# Altium schematic symbol library IC.SchLib: 291 symbols (part 2 of 3)
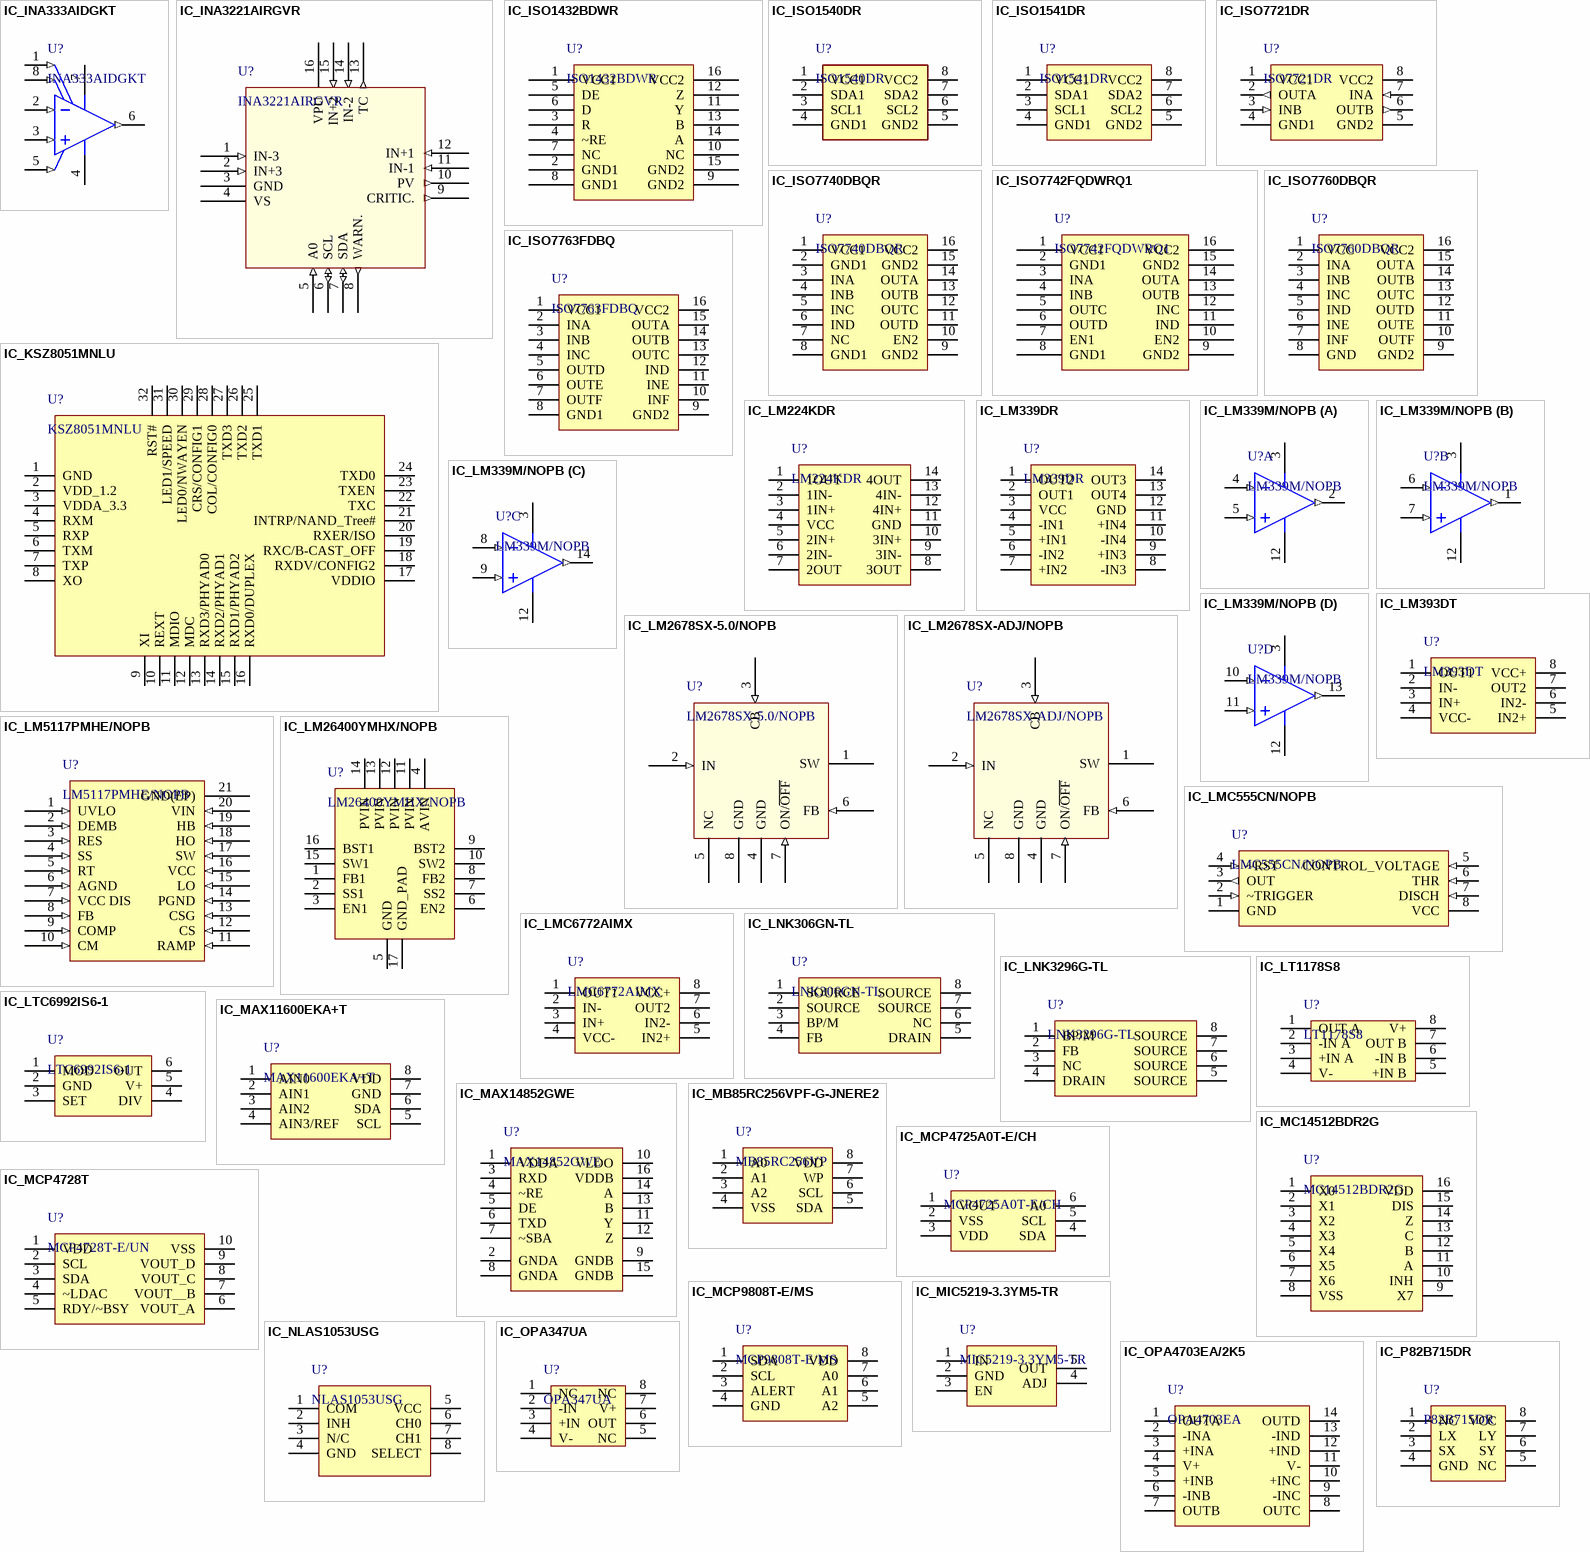
[diagram p13: symbols IC_INA333AIDGKT to IC_P82B715DR]

## IC_MC14512BDR2G
designator U?, comment MC14512BDR2G
Data Selector/Multiplexer 1 x 8:1 16-SOIC; Manufacturer: ON Semiconductor; Alternate Part Number-1: NA; Manufacturer Part Number: MC14512BDR2G; Case/Package: SOIC16; Supplier-1: ARROW; Supplier Part Number-1: MC14512BDR2G
footprint SOIC16_50_284_25X90_SMT
pins: 1 X0, 2 X1, 3 X2, 4 X3, 5 X4, 6 X5, 7 X6, 8 VSS, 9 X7, 10 INH, 11 A, 12 B, 13 C, 14 Z, 15 DIS, 16 VDD

## IC_MCP4725A0T-E/CH
designator U?, comment MCP4725A0T-E/CH
12 Bit Digital to Analog Converter 1 SOT-23-6; Manufacturer: Microchip Technology; Alternate Part Number-1: NA; Manufacturer Part Number: MCP4725A0T-E/CH; Case/Package: SOT-23-6; Supplier-1: Digikey; Supplier Part Number-1: MCP4725A0T-E/CHCT-ND
footprint SOT23-6 (CASE: SOT)
pins: 1 VOUT, 2 VSS, 3 VDD, 4 SDA, 5 SCL, 6 A0

## IC_MCP4728T
designator U?, comment MCP4728T-E/UN
12 Bit Digital to Analog Converter 4 10-MSOP; Manufacturer: Microchip Technology; Alternate Part Number-1: NA; Manufacturer Part Number: MCP4728T-E/UN; Case/Package: 10-MSOP; Supplier-1: Arrow; Supplier Part Number-1: MCP4728T-E/UN
footprint MSOP-10_19.6_235_11.8X55X_SMD (IC)
pins: 1 VDD, 2 SCL, 3 SDA, 4 ~LDAC, 5 RDY/~BSY, 6 VOUT_A, 7 VOUT__B, 8 VOUT_C, 9 VOUT_D, 10 VSS

## IC_MCP9808T-E/MS
designator U?, comment MCP9808T-E/MS
Temperature Sensor Digital, Local -40°C ~ 125°C 10 b 8-MSOP; Manufacturer: Microchip; Alternate Part Number-1: NA; Manufacturer Part Number: MCP9808T-E/MS; Case/Package: MSOP8; Supplier-1: ARROW; Supplier Part Number-1: MCP9808T-E/MS
footprint MSOP-8_25.5_230_17.7X55_SMD (CASE:MSOP)
pins: 1 SDA, 2 SCL, 3 ALERT, 4 GND, 5 A2, 6 A1, 7 A0, 8 VDD

## IC_MIC5219-3.3YM5-TR
designator U?, comment MIC5219-3.3YM5-TR
Linear Voltage Regulator IC 1 Output 500mA SOT-23-5; Manufacturer: Microchip Micrel; Alternate Part Number-1: NA; Manufacturer Part Number: MIC5219-3.3YM5-TR; Case/Package: SOT-23-5; Supplier-1: ARROW; Supplier Part Number-1: MIC5219-3.3YM5-TR
footprint SOT23-5
pins: 1 IN, 2 GND, 3 EN, 4 ADJ, 5 OUT

## IC_NLAS1053USG
designator U?, comment NLAS1053USG
1 Circuit IC Switch 2:1 16Ohm US8; Manufacturer: ON Semiconductor; Alternate Part Number-1: NA; Manufacturer Part Number: NLAS1053USG; Case/Package: 8-VFSOP; Supplier-1: Arrow; Supplier Part Number-1: NLAS1053USG
footprint VSSOP-8_19.6_157_33X11_SMD (VSSOP)
pins: 1 COM, 2 INH, 3 N/C, 4 GND, 5 VCC, 6 CH0, 7 CH1, 8 SELECT

## IC_OPA347UA
designator U?, comment OPA347UA
General Purpose Amplifier 1 Circuit Rail-to-Rail 8-SOIC; Manufacturer: Texas Instruments; Alternate Part Number-1: NA; Manufacturer Part Number: OPA347UA; Case/Package: SOIC8; Supplier-1: MOUSER; Supplier Part Number-1: OPA347UA
footprint SOIC8_50_328_25X90_SMT (SOIC)
pins: 1 NC, 2 -IN, 3 +IN, 4 V-, 5 NC, 6 OUT, 7 V+, 8 NC

## IC_OPA4703EA/2K5
designator U?, comment OPA4703EA
General Purpose Amplifier 4 Circuit Rail-to-Rail 14-TSSOP; Manufacturer: Texas Instruments; Manufacturer Part Number: OPA4703EA/2K5; Alternate Part Number-1: NA; Case/Package: TSSOP14; Supplier-1: MOUSER; Supplier Part Number-1: OPA4703EA/2K5
footprint TSSOP14_25.6_296_15X55_SMD (CASE: TSSOP)
pins: 1 OUTA, 2 -INA, 3 +INA, 4 V+, 5 +INB, 6 -INB, 7 OUTB, 8 OUTC, 9 -INC, 10 +INC, 11 V-, 12 +IND, 13 -IND, 14 OUTD

## IC_P82B715DR
designator U?, comment P82B715DR
Buffer, ReDriver 1 Channel 8-SOIC; Manufacturer: Texas Instruments; Alternate Part Number-1: NA; Manufacturer Part Number: P82B715DR; Case/Package: SOIC8; Supplier-1: ARROW; Supplier Part Number-1: P82B715DR
footprint SOIC8_50_328_25X90_SMT (SOIC)
pins: 1 NC, 2 LX, 3 SX, 4 GND, 5 NC, 6 SY, 7 LY, 8 VCC

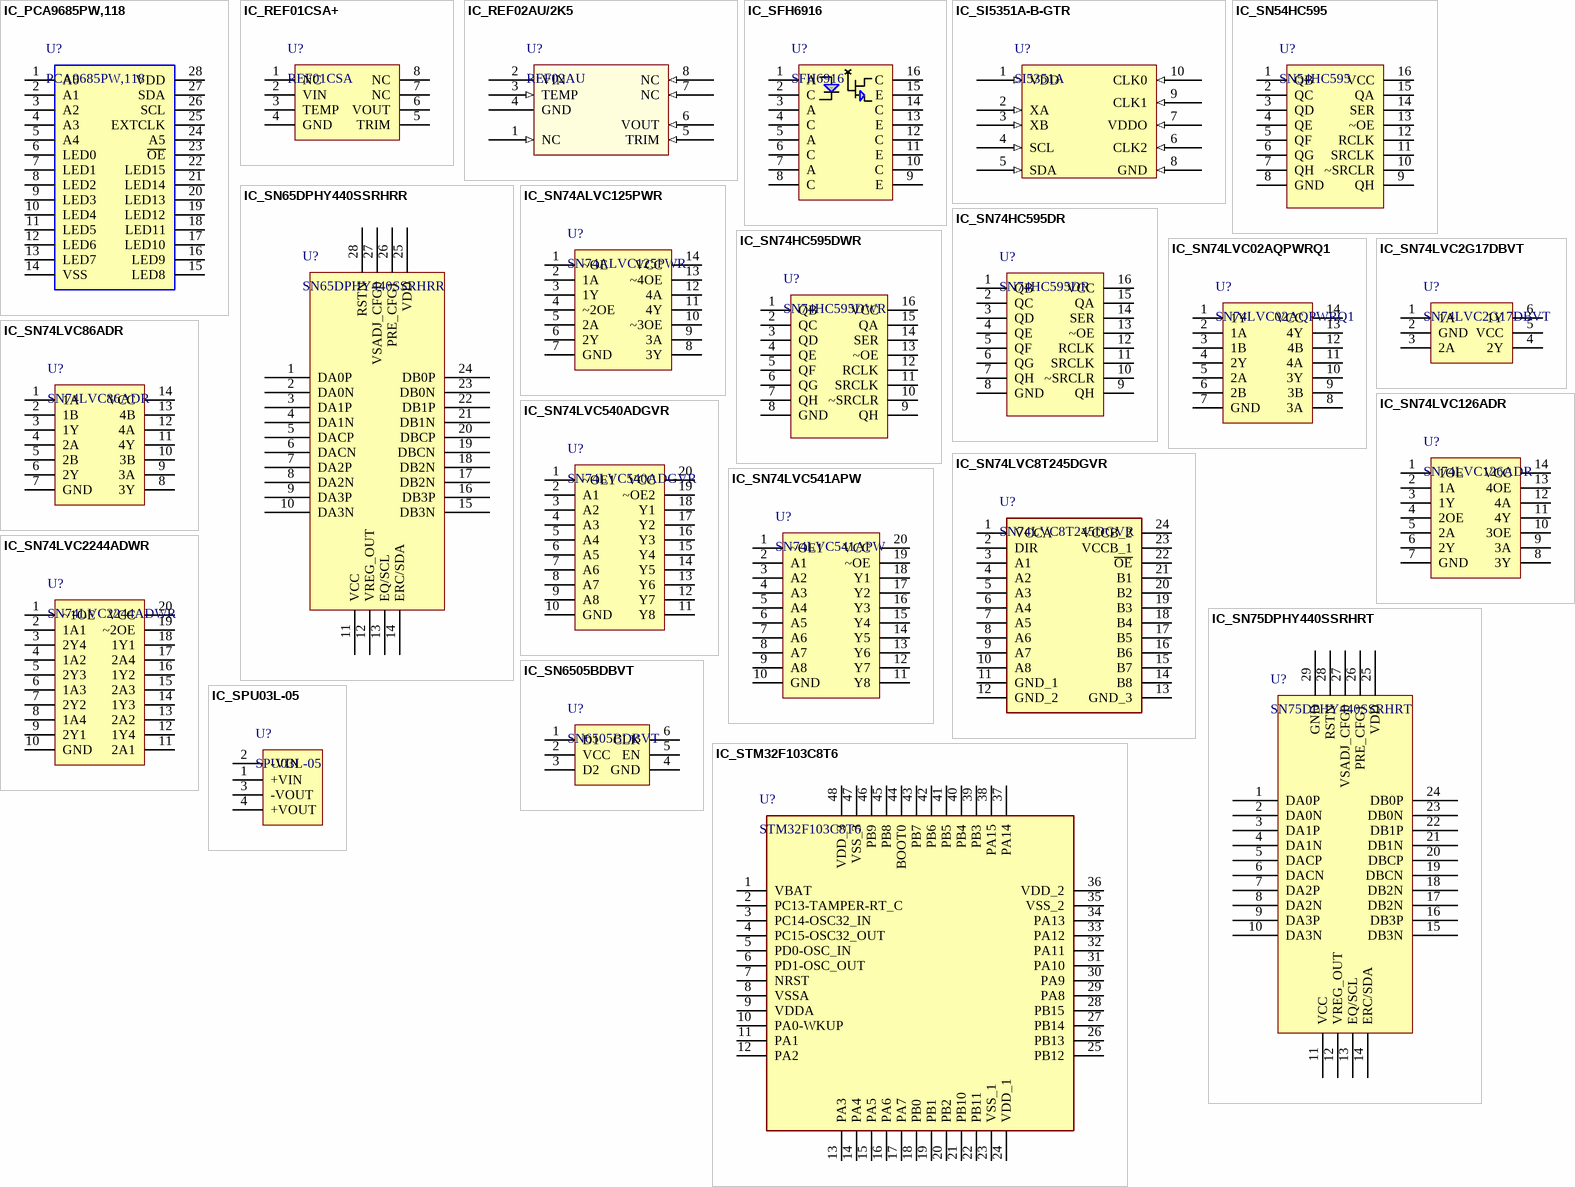
[diagram p4: symbols IC_PCA9685PW,118 to IC_STM32F103C8T6]

## IC_PCA9685PW,118
designator U?, comment PCA9685PW,118
LED Driver IC 16 Output Linear PWM Dimming 25mA 28-TSSOP; Manufacturer: NXP Semiconductors; Alternate Part Number-1: NA; Manufacturer Part Number: PCA9685PW,118; Case/Package: TSSOP28; Supplier-1: ARROW; Supplier Part Number-1: PCA9685PW,118
footprint TSSOP28_25.5_295_15X58_SMD (CASE: TSSOP)
pins: 1 A0, 2 A1, 3 A2, 4 A3, 5 A4, 6 LED0, 7 LED1, 8 LED2, 9 LED3, 10 LED4, 11 LED5, 12 LED6, 13 LED7, 14 VSS, 15 LED8, 16 LED9, 17 LED10, 18 LED11, 19 LED12, 20 LED13, 21 LED14, 22 LED15, 23 ~{OE}, 24 A5, 25 EXTCLK, 26 SCL, 27 SDA, 28 VDD

## IC_REF01CSA+
designator U?, comment REF01CSA
Series Voltage Reference IC ±1% 8-SOIC; Manufacturer: Maxim; Manufacturer Part Number: REF01CSA+; Alternate Part Number-1: NA; Case/Package: SOIC8; Supplier-1: RS COMP; Supplier Part Number-1: REF01CSA+
footprint SOIC8_50_328_25X90_SMT (SOIC)
pins: 1 NC, 2 VIN, 3 TEMP, 4 GND, 5 TRIM, 6 VOUT, 7 NC, 8 NC

## IC_REF02AU/2K5
designator U?, comment REF02AU
Series Voltage Reference IC ±0.3% 8-SOIC; Manufacturer: Texas Instruments; Manufacturer Part Number: REF02AU/2K5; Alternate Part Number-1: NA; Case/Package: SOIC8; Supplier-1: ARROW; Supplier Part Number-1: REF02AU/2K5
footprint SOIC8_50_328_25X90_SMT (SOIC)
pins: 1 NC (in), 2 VIN (power), 3 TEMP (in), 4 GND (power), 5 TRIM (in), 6 VOUT (in), 7 NC (in), 8 NC (in)

## IC_SFH6916
designator U?, comment SFH6916
Optoisolator Transistor Output 3750Vrms 4 Channel 16-SOP; Manufacturer: Vishay Semiconductors; Alternate Part Number-1: NA; Manufacturer Part Number: SFH6916; Case/Package: SOIC16; Supplier-1: ARROW; Supplier Part Number-1: SFH6916
footprint SOIC16_50_284_25X90_SMT
pins: 1 A, 2 C, 3 A, 4 C, 5 A, 6 C, 7 A, 8 C, 9 E, 10 C, 11 E, 12 C, 13 E, 14 C, 15 E, 16 C

## IC_SI5351A-B-GTR
designator U?, comment SI5351A
Clock Generators & Support Products I2C Prog, Any Frequency, Any Output, Xtal Ref, 3-Output LVCMOS Clock Gen; Manufacturer: Silicon Labs; Manufacturer Part Number: SI5351A-B-GTR; Alternate Part Number-1: NA; Case/Package: SSOP10; Supplier-1: ARROW; Supplier Part Number-1: SI5351A-B-GTR
footprint SSOP10_19_236_55X11_SMD
pins: 1 VDD (in), 2 XA (in), 3 XB (in), 4 SCL (in), 5 SDA (in), 6 CLK2 (in), 7 VDDO (in), 8 GND (in), 9 CLK1 (in), 10 CLK0 (in)

## IC_SN54HC595
designator U?, comment SN54HC595
Parallel-out shift register IC_SN54HC595 The SNx4HC595 devices contain an 8-bit, serial-in, / 1• 8-Bit Serial-In; Manufacturer: Texas Instruments; Alternate Part Number-1: NA; Manufacturer Part Number: SN54HC595; Case/Package: TSSOP16; Supplier-1: ARROW; Supplier Part Number-1: SN54HC595
footprint TSSOP16_25-59_294_54X14_SMT (TSOP, 16-Leads, Body 5.00x4.40mm, Pitch 0.65mm)
pins: 1 QB, 2 QC, 3 QD, 4 QE, 5 QF, 6 QG, 7 QH, 8 GND, 9 QH, 10 ~SRCLR, 11 SRCLK, 12 RCLK, 13 ~OE, 14 SER, 15 QA, 16 VCC

## IC_SN65DPHY440SSRHRR
designator U?, comment SN65DPHY440SSRHRR
Video IC 28-WQFN (5.5x3.5) Package; Manufacturer: Texas Instruments; Alternate Part Number-1: NA; Manufacturer Part Number: SN65DPHY440SSRHRR; Case/Package: 28-WQFN; Supplier-1: Digikey; Supplier Part Number-1: 296-44524-1-ND
footprint WQFN-28_19.7_186_33.8X10_SMD (WQFN Package)
pins: 1 DA0P, 2 DA0N, 3 DA1P, 4 DA1N, 5 DACP, 6 DACN, 7 DA2P, 8 DA2N, 9 DA3P, 10 DA3N, 11 VCC, 12 VREG_OUT, 13 EQ/SCL, 14 ERC/SDA, 15 DB3N, 16 DB3P, 17 DB2N, 18 DB2N, 19 DBCN, 20 DBCP, 21 DB1N, 22 DB1P, 23 DB0N, 24 DB0P, 25 VDD, 26 PRE_CFG1, 27 VSADJ_CFG0, 28 RSTN

## IC_SN74ALVC125PWR
designator U?, comment SN74ALVC125PWR
Buffer, Non-Inverting 4 Element 1 Bit per Element 3-State Output 14-TSSOP; Manufacturer: Texas Instruments; Alternate Part Number-1: NA; Manufacturer Part Number: SN74ALVC125PWR; Case/Package: TSSOP14; Supplier-1: ARROW; Supplier Part Number-1: SN74ALVC125PWR
footprint TSSOP14_25.6_296_15X55_SMD (CASE: TSSOP)
pins: 1 ~OE, 2 1A, 3 1Y, 4 ~2OE, 5 2A, 6 2Y, 7 GND, 8 3Y, 9 3A, 10 ~3OE, 11 4Y, 12 4A, 13 ~4OE, 14 VCC

## IC_SN74HC595DR
designator U?, comment SN74HC595DR
Shift Shift Register 1 Element 8 Bit 16-SOIC; Manufacturer: TI; Alternate Part Number-1: NA; Manufacturer Part Number: SN74HC595DR; Case/Package: 16-SOIC; Supplier-1: Digikey; Supplier Part Number-1: 296-14857-1-ND
footprint SOIC16_50_284_25X90_SMT
pins: 1 QB, 2 QC, 3 QD, 4 QE, 5 QF, 6 QG, 7 QH, 8 GND, 9 QH, 10 ~SRCLR, 11 SRCLK, 12 RCLK, 13 ~OE, 14 SER, 15 QA, 16 VCC

## IC_SN74HC595DWR
designator U?, comment SN74HC595DWR
Shift Shift Register 1 Element 8 Bit 16-SOIC; Manufacturer: Texas Instruments; Alternate Part Number-1: NA; Manufacturer Part Number: SN74HC595DWR; Case/Package: SOICW-16; Supplier-1: ARROW; Supplier Part Number-1: SN74HC595DWR
footprint SOICW16_50_440_25X76_SMT (SOICW)
pins: 1 QB, 2 QC, 3 QD, 4 QE, 5 QF, 6 QG, 7 QH, 8 GND, 9 QH, 10 ~SRCLR, 11 SRCLK, 12 RCLK, 13 ~OE, 14 SER, 15 QA, 16 VCC

## IC_SN74LVC02AQPWRQ1
designator U?, comment SN74LVC02AQPWRQ1
NOR Gate IC 4 Channel 14-TSSOP; Manufacturer: Texas Instruments; Alternate Part Number-1: NA; Manufacturer Part Number: SN74LVC02AQPWRQ1; Case/Package: TSSOP-14; Supplier-1: Arrow; Supplier Part Number-1: SN74LVC02AQPWRQ1
footprint TSSOP14_25.6_296_15X55_SMD (CASE: TSSOP)
pins: 1 1Y, 2 1A, 3 1B, 4 2Y, 5 2A, 6 2B, 7 GND, 8 3A, 9 3B, 10 3Y, 11 4A, 12 4B, 13 4Y, 14 VCC

## IC_SN74LVC2G17DBVT
designator U?, comment SN74LVC2G17DBVT
Buffer, Non-Inverting 2 Element 1 Bit per Element Push-Pull Output SOT-23-6; Manufacturer: Texas Instruments; Alternate Part Number-1: NA; Manufacturer Part Number: SN74LVC2G17DBVT; Case/Package: SOT23-6; Supplier-1: ARROW; Supplier Part Number-1: SN74LVC2G17DBVT
footprint SOT23-6
pins: 1 1A, 2 GND, 3 2A, 4 2Y, 5 VCC, 6 1Y

## IC_SN74LVC8T245DGVR
designator U?, comment SN74LVC8T245DGVR
Voltage Level Translator Bidirectional 1 Circuit 8 Channel 24-TVSOP; Manufacturer: Texas Instruments; Alternate Part Number-1: NA; Manufacturer Part Number: SN74LVC8T245DGVR; Case/Package: 24TVSOP; Supplier-1: ARROW; Supplier Part Number-1: SN74LVC8T245DGVR
footprint TVSOP-24_15.7_290_58x7.7_smd (IC TRNSLTR BIDIRECTIONAL 24TVSOP)
pins: 1 VCCA, 2 DIR, 3 A1, 4 A2, 5 A3, 6 A4, 7 A5, 8 A6, 9 A7, 10 A8, 11 GND_1, 12 GND_2, 13 GND_3, 14 B8, 15 B7, 16 B6, 17 B5, 18 B4, 19 B3, 20 B2, 21 B1, 22 ~{OE}, 23 VCCB_1, 24 VCCB_2

## IC_SN74LVC86ADR
designator U?, comment SN74LVC86ADR
XOR (Exclusive OR) IC 4 Channel 14-SOIC; Manufacturer: Texas Instruments; Alternate Part Number-1: NA; Manufacturer Part Number: SN74LVC86ADR; Case/Package: 14-SOIC; Supplier-1: Arrow; Supplier Part Number-1: SN74LVC86ADR
footprint SOIC14_50_285_80X25_SMT (SOIC, 14-Leads, Body 8.56x3.90mm, Pitch 1.27mm, IPC Medium Density)
pins: 1 1A, 2 1B, 3 1Y, 4 2A, 5 2B, 6 2Y, 7 GND, 8 3Y, 9 3A, 10 3B, 11 4Y, 12 4A, 13 4B, 14 VCC

## IC_SN74LVC126ADR
designator U?, comment SN74LVC126ADR
Buffer, Non-Inverting 4 Element 1 Bit per Element 3-State Output 14-SOIC; Manufacturer: Texas Instruments; Alternate Part Number-1: NA; Manufacturer Part Number: SN74LVC126ADR; Case/Package: SOIC-14; Supplier-1: Arrow; Supplier Part Number-1: SN74LVC126ADR
footprint SOIC14_50_285_80X25_SMT (SOIC, 14-Leads, Body 8.56x3.90mm, Pitch 1.27mm, IPC Medium Density)
pins: 1 1OE, 2 1A, 3 1Y, 4 2OE, 5 2A, 6 2Y, 7 GND, 8 3Y, 9 3A, 10 3OE, 11 4Y, 12 4A, 13 4OE, 14 VCC

## IC_SN74LVC540ADGVR
designator U?, comment SN74LVC540ADGVR
Buffer, Inverting 1 Element 8 Bit per Element 3-State Output 20-TVSOP; Manufacturer: Texas Instruments; Alternate Part Number-1: NA; Manufacturer Part Number: SN74LVC540ADGVR; Case/Package: TVSOP-20; Supplier-1: Arrow; Supplier Part Number-1: SN74LVC540ADGVR
footprint TVSOP20_15.74_303_9x82.6_SMD (TVSOP Package)
pins: 1 ~OE1, 2 A1, 3 A2, 4 A3, 5 A4, 6 A5, 7 A6, 8 A7, 9 A8, 10 GND, 11 Y8, 12 Y7, 13 Y6, 14 Y5, 15 Y4, 16 Y3, 17 Y2, 18 Y1, 19 ~OE2, 20 VCC

## IC_SN74LVC541APW
designator U?, comment SN74LVC541APW
Buffer/Line Driver 8-CH Non-Inverting 3-ST CMOS 20-Pin TSSOP Tube; Manufacturer: Texas Instruments; Alternate Part Number-1: NA; Manufacturer Part Number: SN74LVC541APW; Case/Package: TSSOP-20; Supplier-1: Arrow; Supplier Part Number-1: SN74LVC541APW
footprint TSSOP20_25-59_292_12X65_SMT
pins: 1 ~OE1, 2 A1, 3 A2, 4 A3, 5 A4, 6 A5, 7 A6, 8 A7, 9 A8, 10 GND, 11 Y8, 12 Y7, 13 Y6, 14 Y5, 15 Y4, 16 Y3, 17 Y2, 18 Y1, 19 ~OE, 20 VCC

## IC_SN74LVC2244ADWR
designator U?, comment SN74LVC2244ADWR
Buffer, Non-Inverting 2 Element 4 Bit per Element 3-State Output 20-SOIC; Manufacturer: Texas Instruments; Alternate Part Number-1: NA; Manufacturer Part Number: SN74LVC2244ADWR; Case/Package: SOIC-20; Supplier-1: Digikey; Supplier Part Number-1: 296-8490-1-ND
footprint SOIC20_50_284_25X90_SMT
pins: 1 ~1OE, 2 1A1, 3 2Y4, 4 1A2, 5 2Y3, 6 1A3, 7 2Y2, 8 1A4, 9 2Y1, 10 GND, 11 2A1, 12 1Y4, 13 2A2, 14 1Y3, 15 2A3, 16 1Y2, 17 2A4, 18 1Y1, 19 ~2OE, 20 VCC

## IC_SN75DPHY440SSRHRT
designator U?, comment SN75DPHY440SSRHRT
Video IC 28-WQFN (5.5x3.5) Package; Manufacturer: Texas Instruments; Alternate Part Number-1: NA; Manufacturer Part Number: SN75DPHY440SSRHRT; Case/Package: 28-WQFN; Supplier-1: Digikey; Supplier Part Number-1: 296-44524-1-ND
footprint WQFN-28_19.7_186_33.8X10_SMD (WQFN Package)
pins: 1 DA0P, 2 DA0N, 3 DA1P, 4 DA1N, 5 DACP, 6 DACN, 7 DA2P, 8 DA2N, 9 DA3P, 10 DA3N, 11 VCC, 12 VREG_OUT, 13 EQ/SCL, 14 ERC/SDA, 15 DB3N, 16 DB3P, 17 DB2N, 18 DB2N, 19 DBCN, 20 DBCP, 21 DB1N, 22 DB1P, 23 DB0N, 24 DB0P, 25 VDD, 26 PRE_CFG1, 27 VSADJ_CFG0, 28 RSTN, 29 GND

## IC_SN6505BDBVT
designator U?, comment SN6505BDBVT
Transformer Driver PMIC SOT-23-6; Manufacturer: Texas Instruments; Alternate Part Number-1: NA; Manufacturer Part Number: SN6505BDBVT; Case/Package: SOT23-6; Supplier-1: ARROW; Supplier Part Number-1: SN6505BDBVT
footprint SOT23-6 (CASE: SOT)
pins: 1 D1, 2 VCC, 3 D2, 4 GND, 5 EN, 6 CLK

## IC_SPU03L-05
designator U?, comment SPU03L-05
Isolated Module DC DC Converter 1 Output 5V 600mA 4.5V - 5.5V Input; Manufacturer: Mean Well; Alternate Part Number-1: NA; Manufacturer Part Number: SPU03L-05; Case/Package: SPU03L-TH; Supplier-1: ARROW; Supplier Part Number-1: SPU03L-05
footprint SPU03L-05_100_787_35D70_TH (SPU03)
pins: 1 +VIN, 2 -VIN, 3 -VOUT, 4 +VOUT

## IC_STM32F103C8T6
designator U?, comment STM32F103C8T6
ARM® Cortex®-M3 STM32F1 Microcontroller IC 32-Bit 72MHz 64KB (64K x 8) FLASH 48-LQFP (7x7); Manufacturer: STMicroelectronics; Alternate Part Number-1: NA; Manufacturer Part Number: STM32F103C8T6; Case/Package: LQFP48; Supplier-1: LCSC; Supplier Part Number-1: STM32F103C8T6
footprint LQFP-48_19.6_393_58X11_SMD (48LQFP)
pins: 1 VBAT, 2 PC13-TAMPER-RT_C, 3 PC14-OSC32_IN, 4 PC15-OSC32_OUT, 5 PD0-OSC_IN, 6 PD1-OSC_OUT, 7 NRST, 8 VSSA, 9 VDDA, 10 PA0-WKUP, 11 PA1, 12 PA2, 13 PA3, 14 PA4, 15 PA5, 16 PA6, 17 PA7, 18 PB0, 19 PB1, 20 PB2, 21 PB10, 22 PB11, 23 VSS_1, 24 VDD_1, 25 PB12, 26 PB13, 27 PB14, 28 PB15, 29 PA8, 30 PA9, 31 PA10, 32 PA11, 33 PA12, 34 PA13, 35 VSS_2, 36 VDD_2, 37 PA14, 38 PA15, 39 PB3, 40 PB4, 41 PB5, 42 PB6, 43 PB7, 44 BOOT0, 45 PB8, 46 PB9, 47 VSS_3, 48 VDD_3

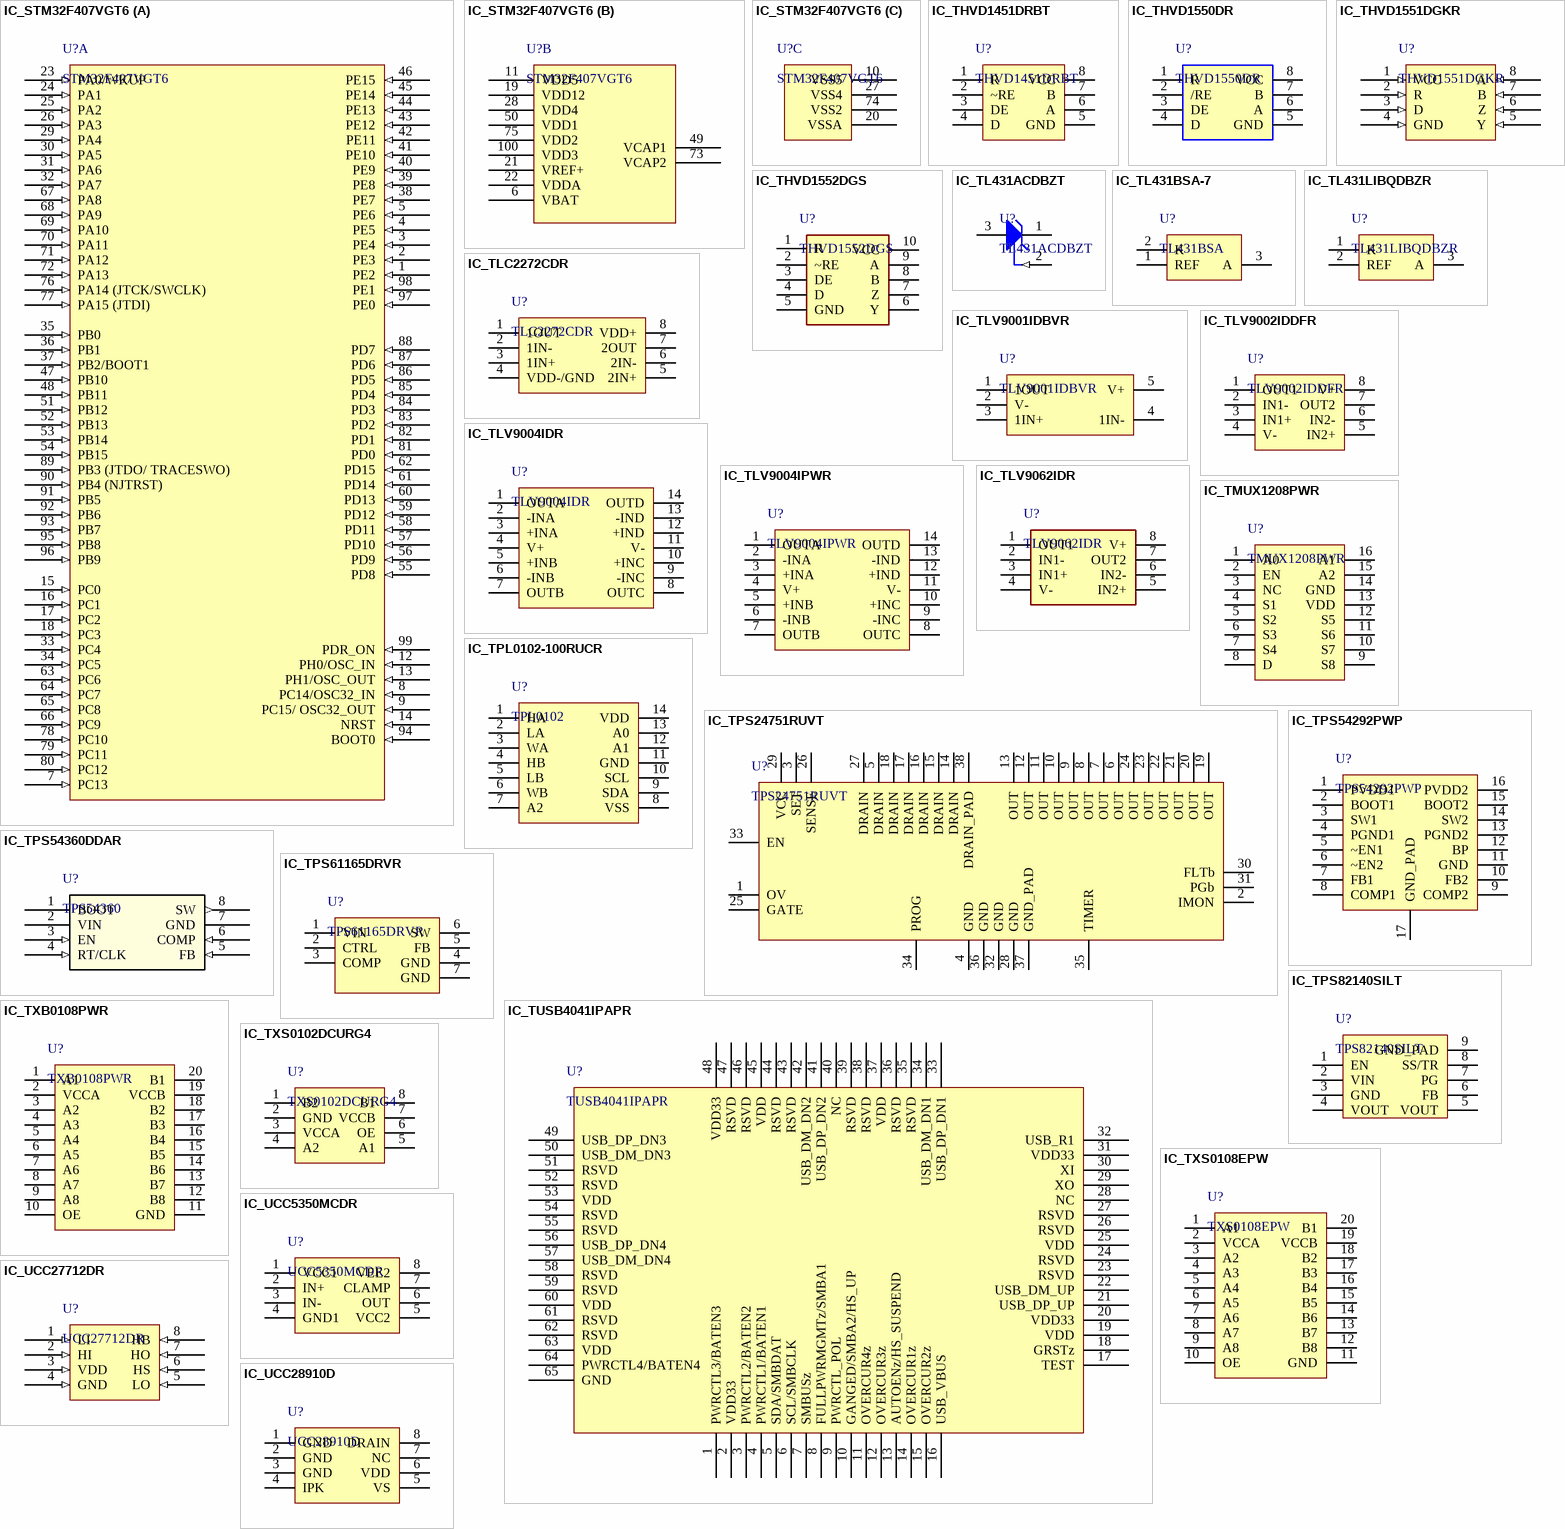
[diagram p5: symbols IC_STM32F407VGT6 to IC_UCC28910D]

## IC_STM32F407VGT6
designator U?, comment STM32F407VGT6
ARM® Cortex®-M4 STM32F4 Microcontroller IC 32-Bit 168MHz 1MB (1M x 8) FLASH 100-LQFP (14x14); Manufacturer: STMicroelectronics; Alternate Part Number-1: STM32F407VET6; Manufacturer Part Number: STM32F407VGT6; Case/Package: LQFP100; Supplier-1: ARROW; Supplier Part Number-1: STM32F407VGT6
footprint QFN100_19.6_669_58X10_SMD (CASE: QFN)
part A pins: 1 PE2 (in), 2 PE3 (in), 3 PE4 (in), 4 PE5 (in), 5 PE6 (in), 7 PC13 (in), 8 PC14/OSC32_IN (in), 9 PC15/ OSC32_OUT (in), 12 PH0/OSC_IN (in), 13 PH1/OSC_OUT (in), 14 NRST (in), 15 PC0 (in), 16 PC1 (in), 17 PC2 (in), 18 PC3 (in), 23 PA0/WKUP (in), 24 PA1 (in), 25 PA2 (in), 26 PA3 (in), 29 PA4 (in), 30 PA5 (in), 31 PA6 (in), 32 PA7 (in), 33 PC4 (in), 34 PC5 (in), 35 PB0 (in), 36 PB1 (in), 37 PB2/BOOT1 (in), 38 PE7 (in), 39 PE8 (in), 40 PE9 (in), 41 PE10 (in), 42 PE11 (in), 43 PE12 (in), 44 PE13 (in), 45 PE14 (in), 46 PE15 (in), 47 PB10 (in), 48 PB11 (in), 51 PB12 (in), 52 PB13 (in), 53 PB14 (in), 54 PB15 (in), 55 PD8 (in), 56 PD9 (in), 57 PD10 (in), 58 PD11 (in), 59 PD12 (in), 60 PD13 (in), 61 PD14 (in), 62 PD15 (in), 63 PC6 (in), 64 PC7 (in), 65 PC8 (in), 66 PC9 (in), 67 PA8 (in), 68 PA9 (in), 69 PA10 (in), 70 PA11 (in), 71 PA12 (in), 72 PA13 (in), 76 PA14 (JTCK/SWCLK) (in), 77 PA15 (JTDI) (in), 78 PC10 (in), 79 PC11 (in), 80 PC12 (in), 81 PD0 (in), 82 PD1 (in), 83 PD2 (in), 84 PD3 (in), 85 PD4 (in), 86 PD5 (in), 87 PD6 (in), 88 PD7 (in), 89 PB3 (JTDO/ TRACESWO) (in), 90 PB4 (NJTRST) (in), 91 PB5 (in), 92 PB6 (in), 93 PB7 (in), 94 BOOT0 (in), 95 PB8 (in), 96 PB9 (in), 97 PE0 (in), 98 PE1 (in), 99 PDR_ON (in)
part B pins: 6 VBAT, 11 VDD5, 19 VDD12, 21 VREF+, 22 VDDA, 28 VDD4, 49 VCAP1, 50 VDD1, 73 VCAP2, 75 VDD2, 100 VDD3
part C pins: 10 VSS5, 20 VSSA, 27 VSS4, 74 VSS2

## IC_THVD1451DRBT
designator U?, comment THVD1451DRBT
1/1 Transceiver Full RS485 8-VSON (3x3); Manufacturer: Texas Instruments; Alternate Part Number-1: NA; Manufacturer Part Number: THVD1451DRBT; Case/Package: 8-SOIC; Supplier-1: Mouser; Supplier Part Number-1: 595-THVD1451DRBR
footprint SOIC8_50_328_25X90_SMT (SOIC)
pins: 1 R, 2 ~RE, 3 DE, 4 D, 5 GND, 6 A, 7 B, 8 VCC

## IC_THVD1550DR
designator U?, comment THVD1550DR
1/1 Transceiver Half RS485 8-SOIC; Manufacturer: Texas Instruments; Alternate Part Number-1: NA; Manufacturer Part Number: THVD1550DR; Case/Package: SOIC8; Supplier-1: MOUSER; Supplier Part Number-1: THVD1550DR
footprint SOIC8_50_328_25X90_SMT (SOIC)
pins: 1 R, 2 /RE, 3 DE, 4 D, 5 GND, 6 A, 7 B, 8 VCC

## IC_THVD1551DGKR
designator U?, comment THVD1551DGKR
1/1 Transceiver Full RS485 8-VSSOP; Manufacturer: Texas Instruments; Alternate Part Number-1: NA; Manufacturer Part Number: THVD1551DGKR; Case/Package: SOIC8; Supplier-1: MOUSER; Supplier Part Number-1: THVD1551DGKR
footprint SOIC8_50_328_25X90_SMT (SOIC)
pins: 1 VCC (in), 2 R (in), 3 D (in), 4 GND (in), 5 Y (in), 6 Z (in), 7 B (in), 8 A (in)

## IC_THVD1552DGS
designator U?, comment THVD1552DGS
1/1 Transceiver Full RS485 10-VSSOP; Manufacturer: Texas Instruments; Alternate Part Number-1: NA; Manufacturer Part Number: THVD1552DGS; Case/Package: SSOP10; Supplier-1: MOUSER; Supplier Part Number-1: THVD1552DGS
footprint SSOP10_19_236_55X11_SMD (CASE: SSOP)
pins: 1 R, 2 ~RE, 3 DE, 4 D, 5 GND, 6 Y, 7 Z, 8 B, 9 A, 10 VCC

## IC_TL431ACDBZT
designator U?, comment TL431ACDBZT
Shunt Voltage Reference IC 36V ±1% SOT-23-3; Manufacturer: Texas Instruments; Alternate Part Number-1: NA; Manufacturer Part Number: TL431ACDBZT; Case/Package: SOT-23; Supplier-1: Mouser; Supplier Part Number-1: 595-TL431ACDBZT
footprint SOT 23-3 (Case: SOT23)
pins: 1 CATHODE, 2 REF (in), 3 ANODE

## IC_TL431BSA-7
designator U?, comment TL431BSA
Shunt Voltage Reference IC 36V ±0.5% SOT-23-3; Manufacturer: Diodes; Manufacturer Part Number: TL431BSA-7; Alternate Part Number-1: NA; Case/Package: SOT-23; Supplier-1: Mouser; Supplier Part Number-1: 621-TL431BSA-7
footprint SOT 23-3
pins: 1 REF, 2 K, 3 A

## IC_TL431LIBQDBZR
designator U?, comment TL431LIBQDBZR
Shunt Voltage Reference IC 36V ±0.5% SOT-23-3; Manufacturer: Texas Instruments; Alternate Part Number-1: NA; Manufacturer Part Number: TL431LIBQDBZR; Case/Package: SOT-23-3; Supplier-1: Mouser; Supplier Part Number-1: 595-TL431LIBQDBZR
footprint SOT 23-3 (Case: SOT23)
pins: 1 K, 2 REF, 3 A

## IC_TLC2272CDR
designator U?, comment TLC2272CDR
General Purpose Amplifier 2 Circuit Rail-to-Rail 8-SOIC; Manufacturer: Texas Instruments; Alternate Part Number-1: NA; Manufacturer Part Number: TLC2272CDR; Case/Package: SOIC8; Supplier-1: LCSC; Supplier Part Number-1: C6979
footprint SOIC8_50_328_25X90_SMT (SOIC)
pins: 1 1OUT, 2 1IN-, 3 1IN+, 4 VDD-/GND, 5 2IN+, 6 2IN-, 7 2OUT, 8 VDD+

## IC_TLV9001IDBVR
designator U?, comment TLV9001IDBVR
CMOS Amplifier 1 Circuit Rail-to-Rail SOT-23-5; Manufacturer: Texas Instruments; Alternate Part Number-1: NA; Manufacturer Part Number: TLV9001IDBVR; Case/Package: SOT-23-5; Supplier-1: Mouser; Supplier Part Number-1: TLV9001IDBVR
footprint SOT23-5 (CASE: SOT)
pins: 1 1OUT, 2 V-, 3 1IN+, 4 1IN-, 5 V+

## IC_TLV9002IDDFR
designator U?, comment TLV9002IDDFR
Operational Amplifiers - Op Amps 2-Channel, 1MHz, RRIO, 1.8V to 5.5V Operational Amplifier for Cost-Optimized Systems 8-SOT-23-THIN -40 to 125; Manufacturer: Texas Instruments; Alternate Part Number-1: NA; Manufacturer Part Number: TLV9002IDDFR; Case/Package: SOT-23-8; Supplier-1: Mouser; Supplier Part Number-1: 595-TLV9002IDDFR
footprint SOT23-8 (Case-SOT)
pins: 1 OUT1, 2 IN1-, 3 IN1+, 4 V-, 5 IN2+, 6 IN2-, 7 OUT2, 8 V+

## IC_TLV9004IDR
designator U?, comment TLV9004IDR
CMOS Amplifier 4 Circuit Rail-to-Rail 14-SOIC; Manufacturer: Texas Instruments; Alternate Part Number-1: NA; Manufacturer Part Number: TLV9004IDR; Case/Package: 14-SOIC; Supplier-1: Digikey; Supplier Part Number-1: 296-51826-1-ND
footprint SOIC14_50_285_80X25_SMT (SOIC, 14-Leads, Body 8.56x3.90mm, Pitch 1.27mm, IPC Medium Density)
pins: 1 OUTA, 2 -INA, 3 +INA, 4 V+, 5 +INB, 6 -INB, 7 OUTB, 8 OUTC, 9 -INC, 10 +INC, 11 V-, 12 +IND, 13 -IND, 14 OUTD

## IC_TLV9004IPWR
designator U?, comment TLV9004IPWR
CMOS Amplifier 4 Circuit Rail-to-Rail TSSOP14; Manufacturer: Texas Instruments; Alternate Part Number-1: NA; Manufacturer Part Number: TLV9004IPWR; Case/Package: TSSOP14; Supplier-1: MOUSER; Supplier Part Number-1: TLV9004IPWR
footprint TSSOP14_25.6_296_15X55_SMD (CASE: TSSOP)
pins: 1 OUTA, 2 -INA, 3 +INA, 4 V+, 5 +INB, 6 -INB, 7 OUTB, 8 OUTC, 9 -INC, 10 +INC, 11 V-, 12 +IND, 13 -IND, 14 OUTD

## IC_TLV9062IDR
designator U?, comment TLV9062IDR
CMOS Amplifier 2 Circuit Rail-to-Rail 8-VSSOP; Manufacturer: Texas Instruments; Alternate Part Number-1: NA; Manufacturer Part Number: TLV9062IDR; Case/Package: SOIC8; Supplier-1: MOUSER; Supplier Part Number-1: TLV9062IDR
footprint SOIC8_50_328_25X90_SMT (SOIC)
pins: 1 OUT1, 2 IN1-, 3 IN1+, 4 V-, 5 IN2+, 6 IN2-, 7 OUT2, 8 V+

## IC_TMUX1208PWR
designator U?, comment TMUX1208PWR
1 Circuit IC Switch 8:1 3Ohm (Typ) 16-TSSOP; Manufacturer: Texas Instruments; Alternate Part Number-1: NA; Manufacturer Part Number: TMUX1208PWR; Case/Package: TSSOP-16; Supplier-1: Mouser; Supplier Part Number-1: 595-TMUX1208PWR
footprint TSSOP16_25-59_294_54X14_SMT (TSOP, 16-Leads, Body 5.00x4.40mm, Pitch 0.65mm)
pins: 1 A0, 2 EN, 3 NC, 4 S1, 5 S2, 6 S3, 7 S4, 8 D, 9 S8, 10 S7, 11 S6, 12 S5, 13 VDD, 14 GND, 15 A2, 16 A1

## IC_TPL0102-100RUCR
designator U?, comment TPL0102
Digital Potentiometer 100k Ohm 2 Circuit 256 Taps I²C Interface 14-TSSOP; Manufacturer: Texas Instruments; Manufacturer Part Number: TPL0102-100QPWREP; Alternate Part Number-1: NA; Case/Package: TSSOP14; Supplier-1: Mouser; Supplier Part Number-1: 595-TPL0102100QPWREP
footprint TSSOP14_25.6_296_15X55_SMD (CASE: TSSOP)
pins: 1 HA, 2 LA, 3 WA, 4 HB, 5 LB, 6 WB, 7 A2, 8 VSS, 9 SDA, 10 SCL, 11 GND, 12 A1, 13 A0, 14 VDD

## IC_TPS24751RUVT
designator U?, comment TPS24751RUVT
Hot Swap Controller 1 Channel General Purpose 36-VQFN (7x3.5); Manufacturer: Texas Instruments; Alternate Part Number-1: NA; Manufacturer Part Number: TPS24751RUVT; Case/Package: 36-VFQFN Exposed Pad; Supplier-1: Arrow; Supplier Part Number-1: TPS24751RUVT
footprint VQFN36_19.6_332_11X39_SMD (QFN, 36-Leads, Body 7.15x3.65mm, Pitch 0.50mm, Thermal Pad 6.30x2.20mm, IPC Medium Density)
pins: 1 OV, 2 IMON, 3 SET, 4 GND, 5 DRAIN, 6 OUT, 7 OUT, 8 OUT, 9 OUT, 10 OUT, 11 OUT, 12 OUT, 13 OUT, 14 DRAIN, 15 DRAIN, 16 DRAIN, 17 DRAIN, 18 DRAIN, 19 OUT, 20 OUT, 21 OUT, 22 OUT, 23 OUT, 24 OUT, 25 GATE, 26 SENSE, 27 DRAIN, 28 GND, 29 VCC, 30 FLTb, 31 PGb, 32 GND, 33 EN, 34 PROG, 35 TIMER, 36 GND, 37 GND_PAD, 38 DRAIN_PAD

## IC_TPS54292PWP
designator U?, comment TPS54292PWP
Buck Switching Regulator IC Positive Adjustable 0.8V 2 Output 1.5A, 2.5A 16-PowerTSSOP (0.173", 4.40mm Width); Manufacturer: Texas Instruments; Alternate Part Number-1: NA; Manufacturer Part Number: TPS54292PWP; Case/Package: HTSSOP EP-16; Supplier-1: MOUSER; Supplier Part Number-1: TPS54292PWP
footprint HTSSOP-16_26_307_59X17_SMD (16-PowerTSSOP)
pins: 1 PVDD1, 2 BOOT1, 3 SW1, 4 PGND1, 5 ~EN1, 6 ~EN2, 7 FB1, 8 COMP1, 9 COMP2, 10 FB2, 11 GND, 12 BP, 13 PGND2, 14 SW2, 15 BOOT2, 16 PVDD2, 17 GND_PAD

## IC_TPS54360DDAR
designator U?, comment TPS54360
Buck, Split Rail Switching Regulator IC Positive Adjustable 0.8V 1 Output 3.5A 8-PowerSOIC (0.154", 3.90mm Width); Manufacturer: Texas Instruments; Manufacturer Part Number: TPS54360DDAR; Alternate Part Number-1: NA; Case/Package: SOIC8; Supplier-1: LCSC; Supplier Part Number-1: C44377
footprint SOIC8_50_328_25X90_SMT (SOIC)
pins: 1 BOOT, 2 VIN (power), 3 EN (in), 4 RT/CLK (in), 5 FB (in), 6 COMP (in), 7 GND (power), 8 SW (out)

## IC_TPS61165DRVR
designator U?, comment TPS61165DRVR
LED Driver IC 1 Output DC DC Regulator Step-Up (Boost) PWM Dimming 1.2A (Switch) 6-WSON (2x2); Manufacturer: Texas Instruments; Alternate Part Number-1: NA; Manufacturer Part Number: TPS61165DRVR; Case/Package: WSON-6; Supplier-1: Digikey; Supplier Part Number-1: TPS61165DRVR
footprint WSON-6_25_126_23X13_SMD (diode)
pins: 1 VIN, 2 CTRL, 3 COMP, 4 GND, 5 FB, 6 SW, 7 GND

## IC_TPS82140SILT
designator U?, comment TPS82140SILT
Non-Isolated PoL Module DC DC Converter 1 Output 0.9 ~ 6V 2A 3V - 17V Input; Manufacturer: Texas Instruments; Alternate Part Number-1: NA; Manufacturer Part Number: TPS82140SILT; Case/Package: SIL0008D; Supplier-1: RS COMP; Supplier Part Number-1: TPS82140SILT
footprint SIL0008D_25.6_118_19x15_SMD (8-LDFN Exposed Pad, Module)
pins: 1 EN, 2 VIN, 3 GND, 4 VOUT, 5 VOUT, 6 FB, 7 PG, 8 SS/TR, 9 GND_PAD

## IC_TUSB4041IPAPR
designator U?, comment TUSB4041IPAPR
USB Hub Controller USB 2.0 USB Interface 64-HTQFP (10x10); Manufacturer: Texas Instruments; Alternate Part Number-1: NA; Manufacturer Part Number: TUSB4041IPAPR; Case/Package: 64-HTQFP (10x10); Supplier-1: LCSC; Supplier Part Number-1: C192089
footprint HTQFP-64_19.6_531_59X11_SMD (HTQFP package)
pins: 1 PWRCTL3/BATEN3, 2 VDD33, 3 PWRCTL2/BATEN2, 4 PWRCTL1/BATEN1, 5 SDA/SMBDAT, 6 SCL/SMBCLK, 7 SMBUSz, 8 FULLPWRMGMTz/SMBA1, 9 PWRCTL_POL, 10 GANGED/SMBA2/HS_UP , 11 OVERCUR4z, 12 OVERCUR3z, 13 AUTOENz/HS_SUSPEND, 14 OVERCUR1z, 15 OVERCUR2z , 16 USB_VBUS, 17 TEST, 18 GRSTz, 19 VDD, 20 VDD33, 21 USB_DP_UP, 22 USB_DM_UP, 23 RSVD, 24 RSVD, 25 VDD, 26 RSVD, 27 RSVD, 28 NC, 29 XO, 30 XI, 31 VDD33, 32 USB_R1, 33 USB_DP_DN1, 34 USB_DM_DN1, 35 RSVD, 36 RSVD, 37 VDD, 38 RSVD, 39 RSVD, 40 NC, 41 USB_DP_DN2, 42 USB_DM_DN2, 43 RSVD, 44 RSVD, 45 VDD, 46 RSVD, 47 RSVD, 48 VDD33, 49 USB_DP_DN3, 50 USB_DM_DN3, 51 RSVD, 52 RSVD, 53 VDD, 54 RSVD, 55 RSVD, 56 USB_DP_DN4, 57 USB_DM_DN4, 58 RSVD, 59 RSVD, 60 VDD, 61 RSVD, 62 RSVD, 63 VDD, 64 PWRCTL4/BATEN4, 65 GND

## IC_TXB0108PWR
designator U?, comment TXB0108PWR
Voltage Level Translator Bidirectional 1 Circuit 8 Channel 100Mbps 20-TSSOP; Manufacturer: Texas Instruments; Alternate Part Number-1: NA; Manufacturer Part Number: TXB0108PWR; Case/Package: TSSOP20; Supplier-1: Mouser; Supplier Part Number-1: 595-TXB0108PWR
footprint TSSOP20_25-59_292_12X65_SMT
pins: 1 A1, 2 VCCA, 3 A2, 4 A3, 5 A4, 6 A5, 7 A6, 8 A7, 9 A8, 10 OE, 11 GND, 12 B8, 13 B7, 14 B6, 15 B5, 16 B4, 17 B3, 18 B2, 19 VCCB, 20 B1

## IC_TXS0102DCURG4
designator U?, comment TXS0102DCURG4
Voltage Level Translator Bidirectional 1 Circuit 2 Channel 24Mbps 8-VSSOP; Manufacturer: Texas Instruments; Alternate Part Number-1: NA; Manufacturer Part Number: TXS0102DCURG4; Case/Package: VSSOP8; Supplier-1: Mouser; Supplier Part Number-1: TXS0102DCURG4
footprint VSSOP-8_19.6_157_33X11_SMD (VSSOP)
pins: 1 B2, 2 GND, 3 VCCA, 4 A2, 5 A1, 6 OE, 7 VCCB, 8 B1

## IC_TXS0108EPW
designator U?, comment TXS0108EPW
TXS0108E 8-Bit Bi-directional, Level-Shifting, Voltage Translator / for Open-Drain and Push-Pull Applications; Manufacturer: Texas Instruments; Alternate Part Number-1: NA; Manufacturer Part Number: TXS0108EPW; Case/Package: TSSOP-20; Supplier-1: Mouser; Supplier Part Number-1: 595-TXS0108EPWRG4
footprint TSSOP20_25-59_292_12X65_SMT
pins: 1 A1, 2 VCCA, 3 A2, 4 A3, 5 A4, 6 A5, 7 A6, 8 A7, 9 A8, 10 OE, 11 GND, 12 B8, 13 B7, 14 B6, 15 B5, 16 B4, 17 B3, 18 B2, 19 VCCB, 20 B1

## IC_UCC5350MCDR
designator U?, comment UCC5350MCDR
Gate Driver Capacitive Coupling 3000Vrms 1 Channel 8-SOIC; Manufacturer: Texas Instruments; Alternate Part Number-1: NA; Manufacturer Part Number: UCC5350MCDR; Case/Package: SOIC8; Supplier-1: MOUSER; Supplier Part Number-1: UCC5350MCDR
footprint SOIC8_50_328_25X90_SMT (SOIC)
pins: 1 VCC1, 2 IN+, 3 IN-, 4 GND1, 5 VCC2, 6 OUT, 7 CLAMP, 8 VEE2

## IC_UCC27712DR
designator U?, comment UCC27712DR
Half-Bridge Gate Driver IC 8-SOIC; Manufacturer: Texas Instruments; Alternate Part Number-1: NA; Manufacturer Part Number: UCC27712DR; Case/Package: SOIC8; Supplier-1: LCSC; Supplier Part Number-1: C269870
footprint SOIC8_50_328_25X90_SMT (SOIC)
pins: 1 LI (in), 2 HI (in), 3 VDD (in), 4 GND (in), 5 LO (in), 6 HS (in), 7 HO (in), 8 HB (in)

## IC_UCC28910D
designator U?, comment UCC28910D
Converter Offline Flyback Topology 420Hz ~ 115kHz 7-SOIC; Manufacturer: Texas Instruments; Alternate Part Number-1: NA; Manufacturer Part Number: UCC28910D; Case/Package: SOIC8; Supplier-1: ARROW; Supplier Part Number-1: UCC28910D
footprint SOIC8_50_328_25X90_SMT (SOIC)
pins: 1 GND, 2 GND, 3 GND, 4 IPK, 5 VS, 6 VDD, 7 NC, 8 DRAIN

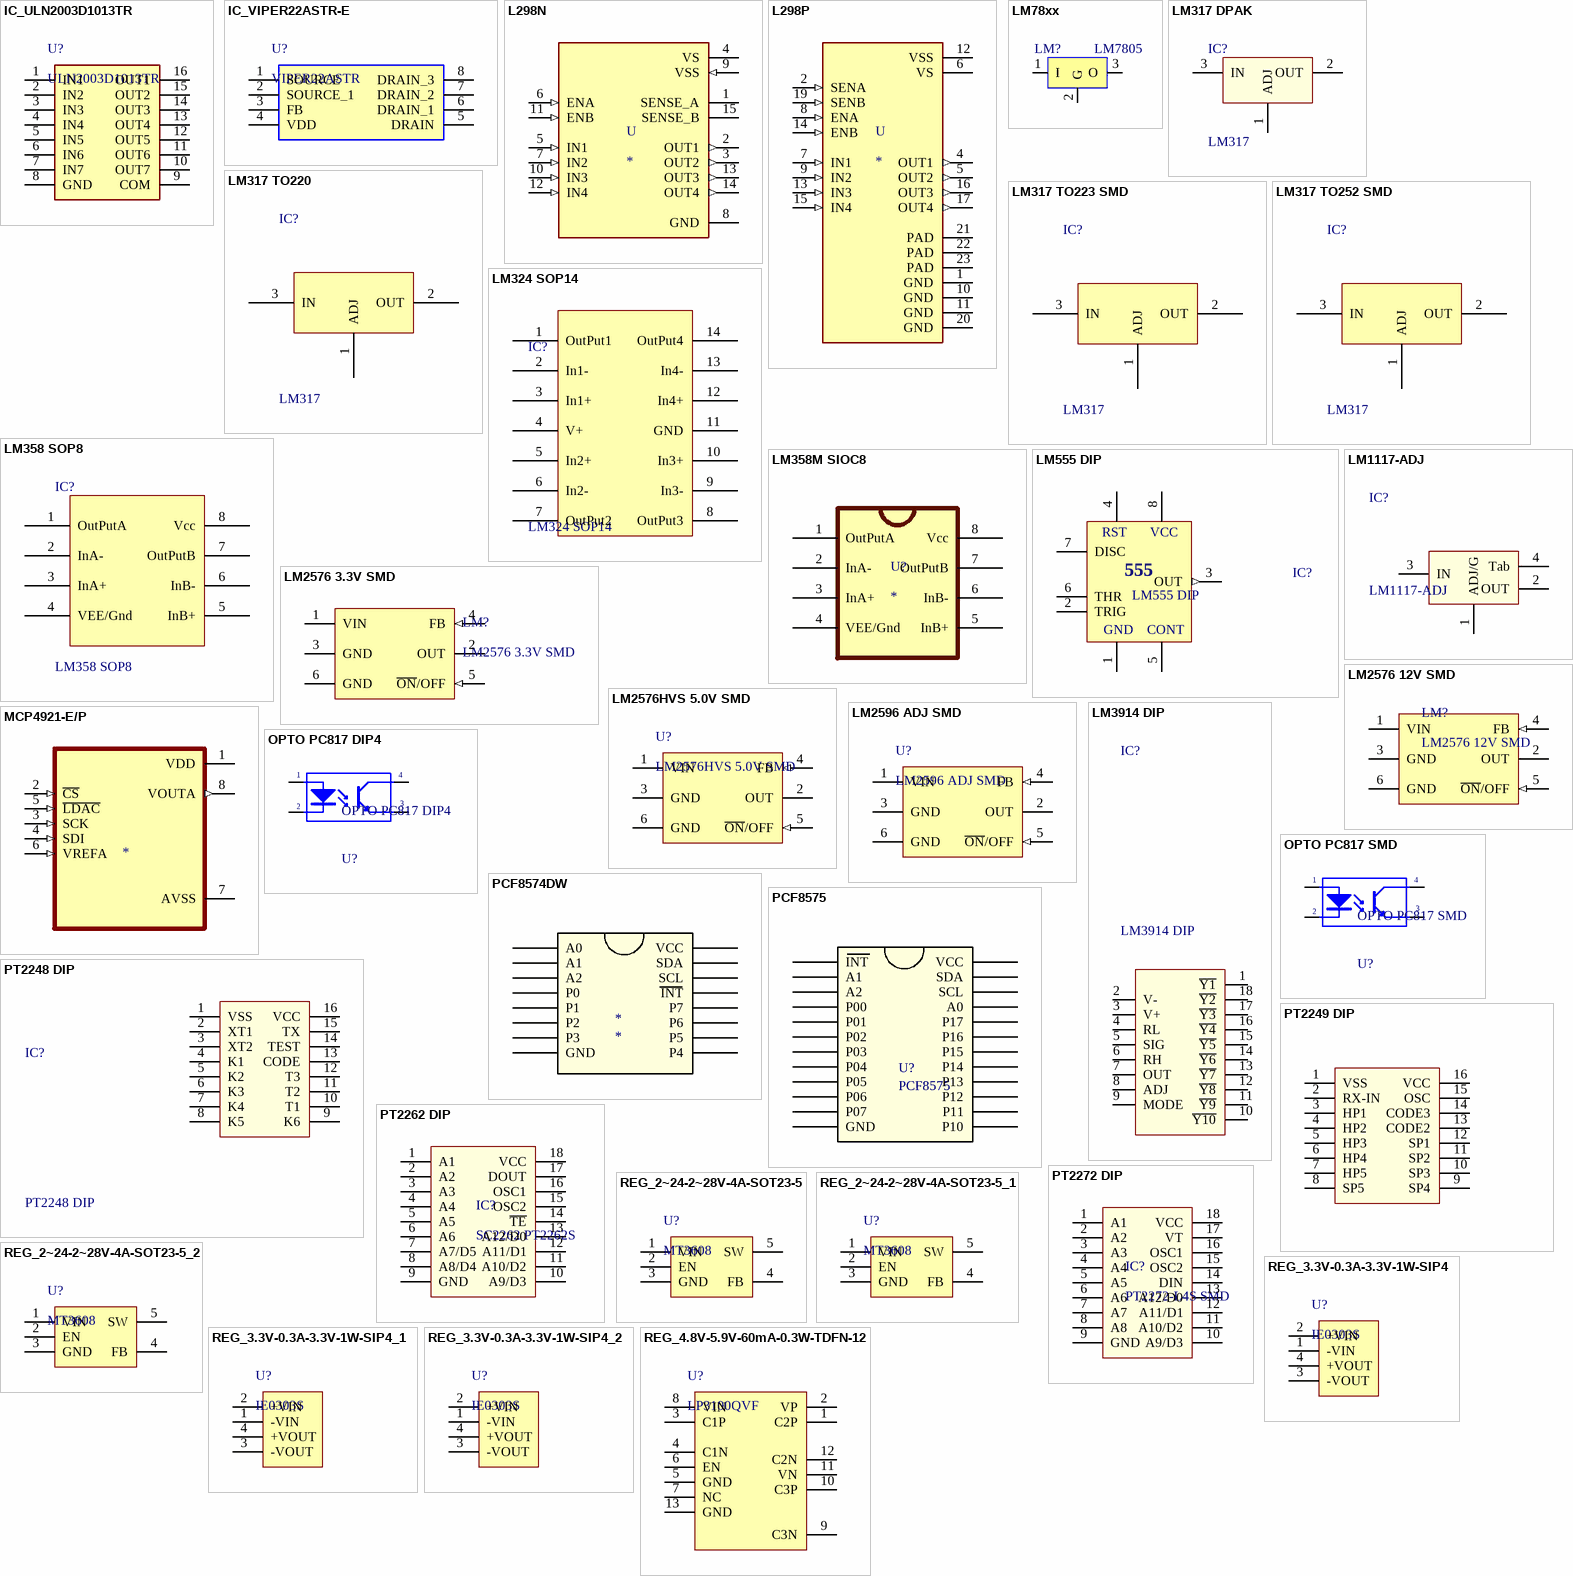
[diagram p6: symbols IC_ULN2003D1013TR to REG_4.8V-5.9V-60mA-0.3W-TDFN-12]

## IC_ULN2003D1013TR
designator U?, comment ULN2003D1013TR
Bipolar (BJT) Transistor Array 7 NPN Darlington 50V 500mA Surface Mount 16-SO; Manufacturer: STMicroelectronics; Alternate Part Number-1: NA; Manufacturer Part Number: ULN2003D1013TR; Case/Package: SOIC16; Supplier-1: LCSC; Supplier Part Number-1: C61273
footprint SOIC16_50_284_25X90_SMT
pins: 1 IN1, 2 IN2, 3 IN3, 4 IN4, 5 IN5, 6 IN6, 7 IN7, 8 GND, 9 COM, 10 OUT7, 11 OUT6, 12 OUT5, 13 OUT4, 14 OUT3, 15 OUT2, 16 OUT1

## IC_VIPER22ASTR-E
designator U?, comment VIPER22ASTR
Converter Offline Flyback Topology 60kHz 8-SOIC; Manufacturer: STMicroelectronics; Manufacturer Part Number: VIPER22ASTR-E; Alternate Part Number-1: NA; Case/Package: SOIC8; Supplier-1: LCSC; Supplier Part Number-1: C9216
footprint SOIC8_50_328_25X90_SMT (SOIC)
pins: 1 SOURCE, 2 SOURCE_1, 3 FB, 4 VDD (power), 5 DRAIN, 6 DRAIN_1, 7 DRAIN_2, 8 DRAIN_3

## L298N
designator U
Half Bridge _4_ Driver DC Motors, Relays, Solenoids, Stepper Motors Bipolar 15-Multiwatt; MP: L298N; MF: STMicroelectronics; Package: Multiwatt-15 STMicroelectronics; Price: None; Availability: Unavailable; Value: *; SnapEDA_Link: https://www.snapeda.com/parts/L298N/STMicroelectronics/view-part/294022/?ref=snap
footprint L298N
pins: 1 SENSE_A, 2 OUT1 (out), 3 OUT2 (out), 4 VS (power), 5 IN1 (in), 6 ENA (in), 7 IN2 (in), 8 GND (power), 9 VSS (in), 10 IN3 (in), 11 ENB (in), 12 IN4 (in), 13 OUT3 (out), 14 OUT4 (out), 15 SENSE_B

## L298P
designator U
Half Bridge (4) Driver DC Motors, Relays, Solenoids, Stepper Motors Bipolar PowerSO-20; MP: L298P; MF: STMicroelectronics; Value: *; SnapEDA_Link: https://www.snapeda.com/parts/L298P/STMicroelectronics/view-part/41344/?ref=snap; Digi-Key_Part_Number: 497-3624-2-ND; DigiKey-Purchase-URL: https://snapeda.com/shop?store=DigiKey&id=41344; Package: SO-20 STMicroelectronics
footprint L298P
pins: 1 GND, 2 SENA (in), 4 OUT1 (out), 5 OUT2 (out), 6 VS (power), 7 IN1 (in), 8 ENA (in), 9 IN2 (in), 10 GND, 11 GND, 12 VSS (power), 13 IN3 (in), 14 ENB (in), 15 IN4 (in), 16 OUT3 (out), 17 OUT4 (out), 19 SENB (in), 20 GND, 21 PAD, 22 PAD, 23 PAD

## LM78xx
designator LM?, comment LM7805
IC REG LDO 5V 1A TO220-3
footprint TO220-BCE (TO-220 - 1-2-3)
footprint TO220H2 (TO-220 - 1-2-3)
footprint TO220H1 (TO-220 - 1-2-3)
footprint TO220NH (TO-220 - 1-2-3)
footprint TO252-BCE
footprint SOT223-ECB (mounted package with increased heatsink; 4  leads)
footprint SOT89-ECB (SOT89, 3-Leads, Body 4.55x2.55mm, Pitch 1.50mm, Lead Span 4.1mm, IPC Medium Density)
pins: 1 I (power), 2 G (power), 3 O (power)

## LM317 DPAK
designator IC?, comment LM317
Adj Voltage +1.2 -> +37V; Value: LM317
footprint LM317 DPAK (D2-PAK, 3-Pads, Body 7.78x8.56mm (max), IPC Medium Density)
pins: 1 ADJ, 2 OUT, 3 IN

## LM317 TO220
designator IC?, comment LM317
Cắm; Ten_Linh_Kien: LM317T TO220 REG LDO ADJ 1.5A; Ma_Hang: MH003115; Don_Vi: Con; Kieu_Chan: *; Ghi_Chu: *; Chung_Loai: Cắm
footprint TO220 (TO-220)
footprint TO220H1 (TO-220 - 1-2-3)
footprint TO220H2 (TO-220 - 1-2-3)
footprint TO220H3 (TO-220 1-2-3)
footprint TO220NH (TO-220 - 1-2-3)
pins: 1 ADJ, 2 OUT, 3 IN

## LM317 TO223 SMD
designator IC?, comment LM317
Dán; Ten_Linh_Kien: LM317 TO223 ADJ 0.5A (N07A,N01A); Ma_Hang: MH003617; Don_Vi: Con; Kieu_Chan: *; Ghi_Chu: *; Chung_Loai: Dán
footprint SOT223
pins: 1 ADJ, 2 OUT, 3 IN

## LM317 TO252 SMD
designator IC?, comment LM317
Dán; Ten_Linh_Kien: LM317 TO252 ADJ 0.5A; Ma_Hang: MH003618; Don_Vi: Con; Kieu_Chan: *; Ghi_Chu: *; Chung_Loai: Dán
footprint TO252
pins: 1 ADJ, 2 OUT, 3 IN

## LM324 SOP14
designator IC?
Dán; Ma_Hang: MH002173; Don_Vi: Con; Ten_Linh_Kien: LM324 SOP14; Kieu_Chan: *; Ghi_Chu: *; Chung_Loai: Dán
footprint sop 14 (SOIC, 14-Leads, Body 8.60x3.90mm, Pitch 1.27mm, IPC Medium Density)
pins: 1 OutPut1, 2 In1-, 3 In1+, 4 V+, 5 In2+, 6 In2-, 7 OutPut2, 8 OutPut3, 9 In3-, 10 In3+, 11 GND, 12 In4+, 13 In4-, 14 OutPut4

## LM358 SOP8
designator IC?
Dán; Ma_Hang: MH000609; Don_Vi: Con; Ten_Linh_Kien: LM358 SOP8; Kieu_Chan: *; Ghi_Chu: *; Chung_Loai: Dán
footprint SOP 8
pins: 1 OutPutA, 2 InA-, 3 InA+, 4 VEE/Gnd, 5 InB+, 6 InB-, 7 OutPutB, 8 Vcc

## LM358M SIOC8
designator U?
2-Channel, 1MHz, industry standard, 32V op amp 8-SOIC 0 to 70; MP: LM358M; MF: Texas Instruments; SnapEDA_Link: https://www.snapeda.com/parts/LM358M/Texas+Instruments/view-part/?ref=snap; Purchase-URL: https://pricing.snapeda.com/search/part/LM358M/?ref=eda; Value: *; Availability: In Stock; Check_prices: https://www.snapeda.com/parts/LM358M/Texas+Instruments/view-part/?ref=eda; Package: SOIC-8 Texas Instruments; Price: None
footprint SOIC 8_127P599X175
pins: 1 OutPutA, 2 InA-, 3 InA+, 4 VEE/Gnd, 5 InB+, 6 InB-, 7 OutPutB, 8 Vcc

## LM555 DIP
designator IC?
Dán; Don_Vi: Con; Ma_Hang: MH001514; Ten_Linh_Kien: LM555; Ghi _Chu: *; Kieu_Chan: *; Chung_Loai: Dán
footprint DIP8 (W.300/L.400)
pins: 1 GND (power), 2 TRIG, 3 OUT (out), 4 RST, 5 CONT, 6 THR, 7 DISC (oc), 8 VCC (power)
text: 555

## LM1117-ADJ
designator IC?
LM1117 LDO ADJ SOT223; Value: LM317
footprint SOT223_3 (CASE: SOT223)
pins: 1 ADJ/G, 2 OUT, 3 IN, 4 Tab

## LM2576 3.3V SMD
designator LM?
Dán; Don_Vi: Con; Ma_Hang: MH001260; Ten_Linh_Kien: LM2576S-3.3V BUCK 3.3V 3A TO263-5; Ghi_Chu: *; Kieu_Chan: *; Chung_Loai: Dán
footprint TO263-5
pins: 1 VIN (power), 2 OUT (power), 3 GND (power), 4 FB (in), 5 ~{ON}/OFF (in), 6 GND

## LM2576 12V SMD
designator LM?
Dán; Don_Vi: Con; Ma_Hang: MH002369; Ten_Linh_Kien: LM2576HVS-12V BUCK 12V 3A TO263-5; Ghi_Chu: *; Kieu_Chan: *; Chung_Loai: Dán
footprint TO263-5
pins: 1 VIN (power), 2 OUT (power), 3 GND (power), 4 FB (in), 5 ~{ON}/OFF (in), 6 GND

## LM2576HVS 5.0V SMD
designator U?
Dán; Ten_Linh_Kien: LM2576HVS-5.0V BUCK 5V 3A TO263-5; Don_Vi: Con; Ma_Hang: MH002362; Ghi_Chu: *; Kieu_Chan: *; Chung_Loai: Dán
footprint TO263-5
pins: 1 VIN (power), 2 OUT (power), 3 GND (power), 4 FB (in), 5 ~{ON}/OFF (in), 6 GND

## LM2596 ADJ SMD
designator U?
Dán; Ten_Linh_Kien: LM2576HVS-ADJ BUCK ADJ 3A TO263-5; Don_Vi: Con; Ma_Hang: MH002361; Ghi_Chu: *; Kieu_Chan: *; Chung_Loai: Dán
footprint TO263-5
pins: 1 VIN (power), 2 OUT (power), 3 GND (power), 4 FB (in), 5 ~{ON}/OFF (in), 6 GND

## LM3914 DIP
designator IC?
Cắm; Ten_Linh_Kien: LM3914 DIP18; Don_Vi: Con; Ma_Hang: MH002419; Ghi_Chu: *; Kieu_Chan: *; Chung_Loai: Cắm
footprint DIP18 (18 PIN, W 300mil, Pin to pin 100mil)
pins: 1 ~{Y1}, 2 V-, 3 V+, 4 RL, 5 SIG, 6 RH, 7 OUT, 8 ADJ, 9 MODE, 10 ~{Y10}, 11 ~{Y9}, 12 ~{Y8}, 13 ~{Y7}, 14 ~{Y6}, 15 ~{Y5}, 16 ~{Y4}, 17 ~{Y3}, 18 ~{Y2}

## MCP4921-E/P
designator ?
12 Bit Digital to Analog Converter 1 8-PDIP; MP: MCP4921-E/P; MF: Microchip; Availability: Unavailable; Package: DIP-8 Microchip; Value: *; Price: None; SnapEDA_Link: https://www.snapeda.com/parts/MCP4921-E/P/Microchip/view-part/60/?ref=snap
footprint DIP787W46P254L927H533Q8
pins: 1 VDD (power), 2 ~{CS} (in), 3 SCK (in), 4 SDI (in), 5 ~{LDAC} (in), 6 VREFA (in), 7 AVSS (power), 8 VOUTA (out)

## OPTO PC817 DIP4
designator U?
Single Opto; Value: PC817
footprint DIP4 (W.300/L.400)
pins: 1 A "Anode", 2 K "Cathode", 3 E "Emitter", 4 C "Collector"

## OPTO PC817 SMD
designator U?
Single Opto; Value: PC817
footprint SOP4
pins: 1 A "Anode", 2 K "Cathode", 3 E "Emitter", 4 C "Collector"

## PCF8574DW
designator *
PCF8574DW 16 pins to expand I/O by I2C protocol (8bit)
footprint PCF8574DW SOIC16
pins: 1 A0, 2 A1, 3 A2, 4 P0, 5 P1, 6 P2, 7 P3, 8 GND, 9 P4, 10 P5, 11 P6, 12 P7, 13 INT, 14 SCL, 15 SDA, 16 VCC

## PCF8575
designator U?
PCF8575 24pins to expand I/O by I2C protocol (16bit)
footprint PCF8575DW_SOIC127P1030X265-24N (PCF8575 24 Pins)
footprint TSSOP65P640X120-24N
footprint SSOP65P775X200-24N
pins: 1 INT, 2 A1, 3 A2, 4 P00, 5 P01, 6 P02, 7 P03, 8 P04, 9 P05, 10 P06, 11 P07, 12 GND, 13 P10, 14 P11, 15 P12, 16 P13, 17 P14, 18 P15, 19 P16, 20 P17, 21 A0, 22 SCL, 23 SDA, 24 VCC

## PT2248 DIP
designator IC?
Cắm; Ten_Linh_Kien: PT2248 DIP16; Don_Vi: Con; Ma_Hang: MH002843; Ghi_Chu: *; Kieu_Chan: *; Chung_Loai: Cắm
footprint DIP16 (16 PIN, W 300mil, Pin to pin 100mil)
pins: 1 VSS, 2 XT1, 3 XT2, 4 K1, 5 K2, 6 K3, 7 K4, 8 K5, 9 K6, 10 T1, 11 T2, 12 T3, 13 CODE, 14 TEST, 15 TX, 16 VCC

## PT2249 DIP
designator IC?, comment PT2249A
Cắm; Ten_Linh_Kien: PT2249A DIP16; Ma_Hang: MH002842; Don_Vi: Con; Ghi_Chu: *; Kieu_Chan: *; Chung_Loai: Cắm
footprint DIP16 (16 PIN, W 300mil, Pin to pin 100mil)
pins: 1 VSS, 2 RX-IN, 3 HP1, 4 HP2, 5 HP3, 6 HP4, 7 HP5, 8 SP5, 9 SP4, 10 SP3, 11 SP2, 12 SP1, 13 CODE2, 14 CODE3, 15 OSC, 16 VCC

## PT2262 DIP
designator IC?, comment SC2262 PT2262S
Dán; Don_Vi: Con; Ma_Hang: MH000739; Ten_Linh_Kien: SC2262 PT2262S; Ghi_Chu: *; Kieu_Chan: *; Chung_Loai: Dán
footprint DIP18 (18 PIN, W 300mil, Pin to pin 100mil)
pins: 1 A1, 2 A2, 3 A3, 4 A4, 5 A5, 6 A6, 7 A7/D5, 8 A8/D4, 9 GND, 10 A9/D3, 11 A10/D2, 12 A11/D1, 13 A12/D0, 14 ~{TE}, 15 OSC2, 16 OSC1, 17 DOUT, 18 VCC

## PT2272 DIP
designator IC?, comment PT2272-L4S SMD
Dán; Don_Vi: Con; Ma_Hang: MH000736; Ten_Linh_Kien: PT2272-L4S SMD; Kieu _Chan: *; Ghi_Chu: *; Chung_Loai: Dán
footprint DIP18 (18 PIN, W 300mil, Pin to pin 100mil)
pins: 1 A1, 2 A2, 3 A3, 4 A4, 5 A5, 6 A6, 7 A7, 8 A8, 9 GND, 10 A9/D3, 11 A10/D2, 12 A11/D1, 13 A12/D0, 14 DIN, 15 OSC2, 16 OSC1, 17 VT, 18 VCC

## REG_2~24-2~28V-4A-SOT23-5
designator U?, comment MT3608
The MT3608 is a constant frequency, 6-pin SOT23 / current mode step-up converter; Manufacturer: AEROSEMI; Alternate Part Number-1: NA; Manufacturer Part Number: MT3608; Case/Package: SOT-23-5; Supplier-1: NA; Supplier Part Number-1: NA
footprint SOT23-5 (CASE: SOT)
pins: 1 VIN, 2 EN, 3 GND, 4 FB, 5 SW

## REG_2~24-2~28V-4A-SOT23-5_1
designator U?, comment MT3608
The MT3608 is a constant frequency, 6-pin SOT23 / current mode step-up converter; Manufacturer: AEROSEMI; Alternate Part Number-1: NA; Manufacturer Part Number: MT3608; Case/Package: SOT-23-5; Supplier-1: NA; Supplier Part Number-1: NA
footprint SOT23-5 (CASE: SOT)
pins: 1 VIN, 2 EN, 3 GND, 4 FB, 5 SW

## REG_2~24-2~28V-4A-SOT23-5_2
designator U?, comment MT3608
The MT3608 is a constant frequency, 6-pin SOT23 / current mode step-up converter; Manufacturer: AEROSEMI; Alternate Part Number-1: NA; Manufacturer Part Number: MT3608; Case/Package: SOT-23-5; Supplier-1: NA; Supplier Part Number-1: NA
footprint SOT23-5 (CASE: SOT)
pins: 1 VIN, 2 EN, 3 GND, 4 FB, 5 SW

## REG_3.3V-0.3A-3.3V-1W-SIP4
designator U?, comment IE0303S
Isolated Module DC DC Converter 1 Output 3.3V 300mA 2.97V - 3.63V Input; Manufacturer: Texas Instruments; Alternate Part Number-1: NA; Manufacturer Part Number: IE0303S; Case/Package: SIP4; Supplier-1: TANOTIS; Supplier Part Number-1: IE0303S
footprint SIP4_100_472_39X59_TH (SIP4)
pins: 1 -VIN, 2 +VIN, 3 -VOUT, 4 +VOUT

## REG_3.3V-0.3A-3.3V-1W-SIP4_1
designator U?, comment IE0303S
Isolated Module DC DC Converter 1 Output 3.3V 300mA 2.97V - 3.63V Input; Manufacturer: Texas Instruments; Alternate Part Number-1: NA; Manufacturer Part Number: IE0303S; Case/Package: SIP4; Supplier-1: TANOTIS; Supplier Part Number-1: IE0303S
footprint SIP4_100_472_39X59_TH (SIP4)
pins: 1 -VIN, 2 +VIN, 3 -VOUT, 4 +VOUT

## REG_3.3V-0.3A-3.3V-1W-SIP4_2
designator U?, comment IE0303S
Isolated Module DC DC Converter 1 Output 3.3V 300mA 2.97V - 3.63V Input; Manufacturer: Texas Instruments; Alternate Part Number-1: NA; Manufacturer Part Number: IE0303S; Case/Package: SIP4; Supplier-1: TANOTIS; Supplier Part Number-1: IE0303S
footprint SIP4_100_472_39X59_TH (SIP4)
pins: 1 -VIN, 2 +VIN, 3 -VOUT, 4 +VOUT

## REG_4.8V-5.9V-60mA-0.3W-TDFN-12
designator U?, comment LP3100QVF
TDFN-12 DC-DC Converters RoHS; Manufacturer: LOWPOWER; Alternate Part Number-1: NA; Manufacturer Part Number: LP3100QVF; Case/Package: TDFN-12; Supplier-1: LCSC; Supplier Part Number-1: C517004
footprint TDFN-12_19.6_170_33X10_SMD (TDFN-12 Package)
pins: 1 C2P, 2 VP, 3 C1P, 4 C1N, 5 GND, 6 EN, 7 NC, 8 VIN, 9 C3N, 10 C3P, 11 VN, 12 C2N, 13 GND

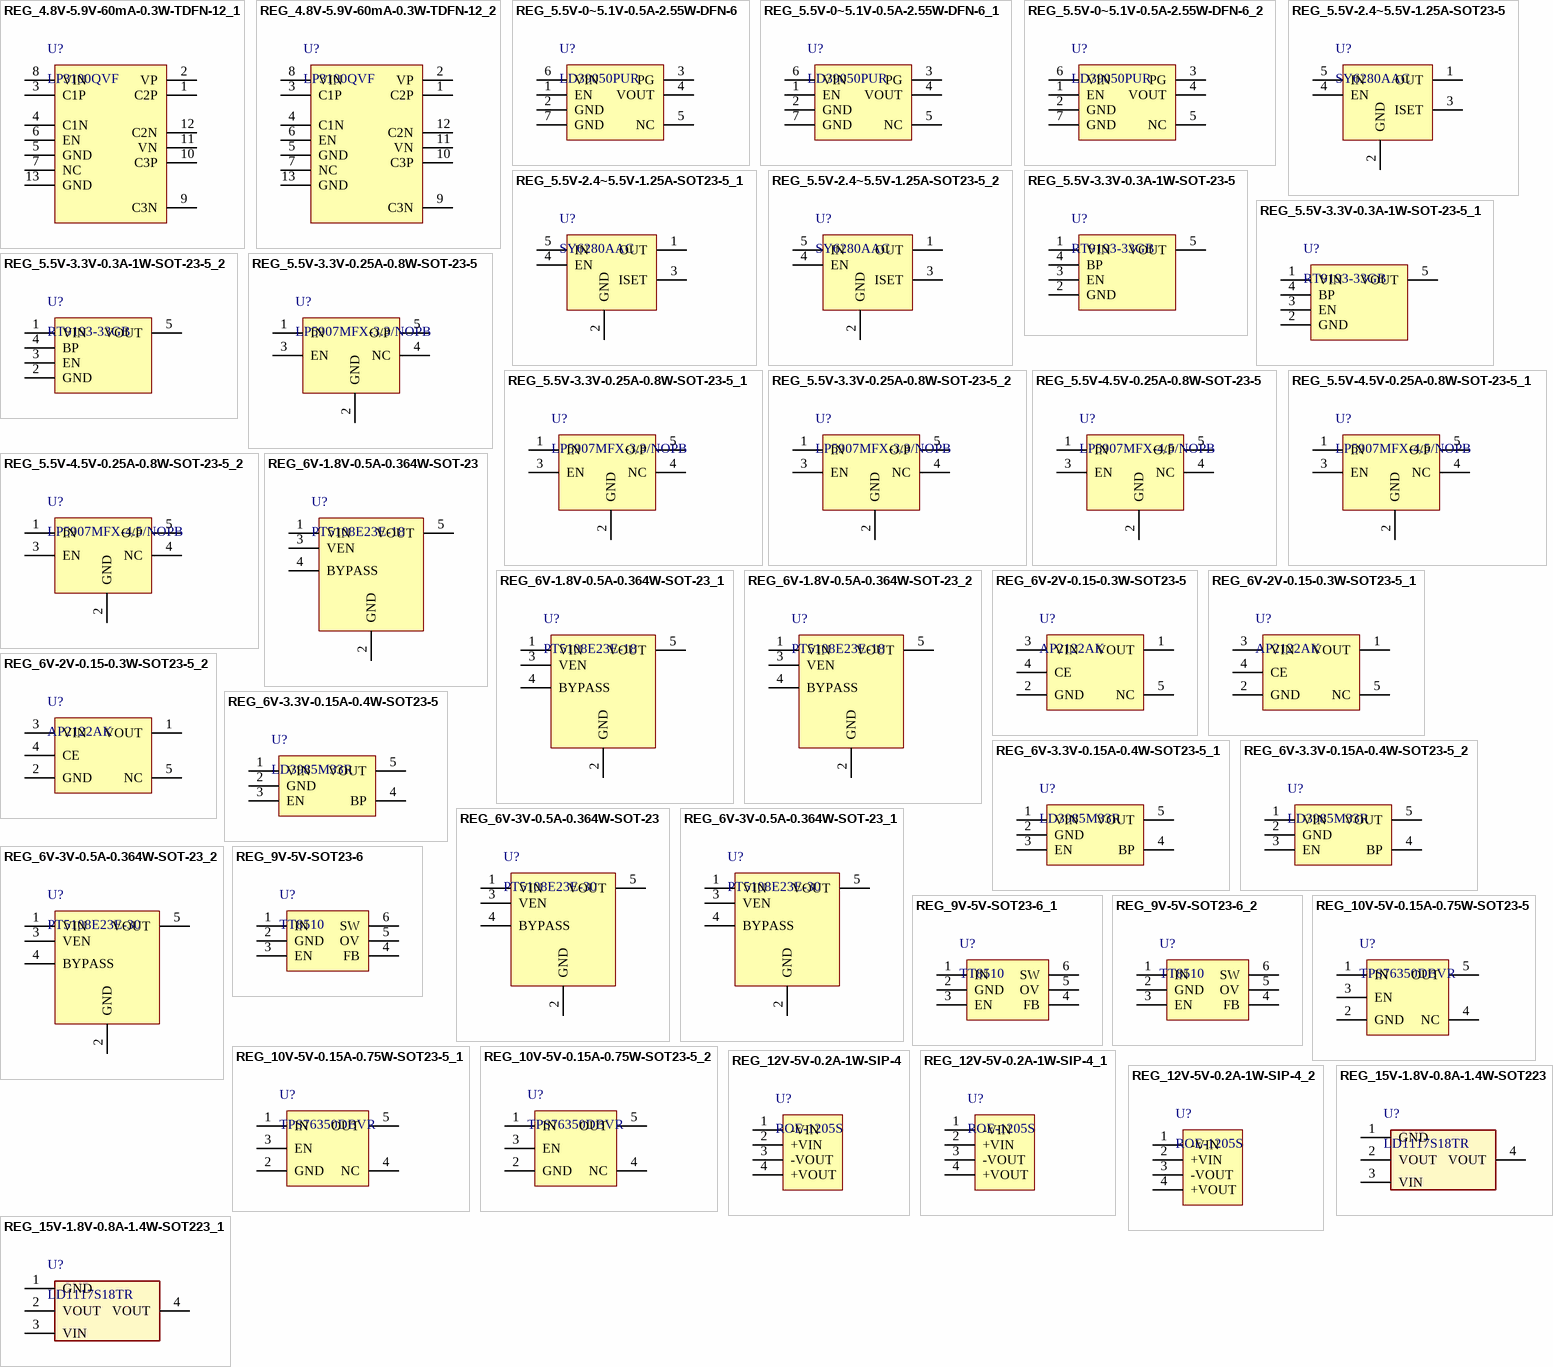
[diagram p7: symbols REG_4.8V-5.9V-60mA-0.3W-TDFN-12_1 to REG_15V-1.8V-0.8A-1.4W-SOT223_1]

## REG_4.8V-5.9V-60mA-0.3W-TDFN-12_1
designator U?, comment LP3100QVF
TDFN-12 DC-DC Converters RoHS; Manufacturer: LOWPOWER; Alternate Part Number-1: NA; Manufacturer Part Number: LP3100QVF; Case/Package: TDFN-12; Supplier-1: LCSC; Supplier Part Number-1: C517004
footprint TDFN-12_19.6_170_33X10_SMD (TDFN-12 Package)
pins: 1 C2P, 2 VP, 3 C1P, 4 C1N, 5 GND, 6 EN, 7 NC, 8 VIN, 9 C3N, 10 C3P, 11 VN, 12 C2N, 13 GND

## REG_4.8V-5.9V-60mA-0.3W-TDFN-12_2
designator U?, comment LP3100QVF
TDFN-12 DC-DC Converters RoHS; Manufacturer: LOWPOWER; Alternate Part Number-1: NA; Manufacturer Part Number: LP3100QVF; Case/Package: TDFN-12; Supplier-1: LCSC; Supplier Part Number-1: C517004
footprint TDFN-12_19.6_170_33X10_SMD (TDFN-12 Package)
pins: 1 C2P, 2 VP, 3 C1P, 4 C1N, 5 GND, 6 EN, 7 NC, 8 VIN, 9 C3N, 10 C3P, 11 VN, 12 C2N, 13 GND

## REG_5.5V-0~5.1V-0.5A-2.55W-DFN-6
designator U?, comment LD39050PUR
Adjustable 5.5V 0.8V 500mA DFN-6 Linear Voltage Regulators RoHS; Manufacturer: STMicroelectronics; Alternate Part Number-1: NA; Manufacturer Part Number: LD39050PUR; Case/Package: DFN-6; Supplier-1: LCSC; Supplier Part Number-1: C222094
footprint DFN-6_37.4_165_33X15_SMD (DFN Package)
pins: 1 EN, 2 GND, 3 PG, 4 VOUT, 5 NC, 6 VIN, 7 GND

## REG_5.5V-0~5.1V-0.5A-2.55W-DFN-6_1
designator U?, comment LD39050PUR
Adjustable 5.5V 0.8V 500mA DFN-6 Linear Voltage Regulators RoHS; Manufacturer: STMicroelectronics; Alternate Part Number-1: NA; Manufacturer Part Number: LD39050PUR; Case/Package: DFN-6; Supplier-1: LCSC; Supplier Part Number-1: C222094
footprint DFN-6_37.4_165_33X15_SMD (DFN Package)
pins: 1 EN, 2 GND, 3 PG, 4 VOUT, 5 NC, 6 VIN, 7 GND

## REG_5.5V-0~5.1V-0.5A-2.55W-DFN-6_2
designator U?, comment LD39050PUR
Adjustable 5.5V 0.8V 500mA DFN-6 Linear Voltage Regulators RoHS; Manufacturer: STMicroelectronics; Alternate Part Number-1: NA; Manufacturer Part Number: LD39050PUR; Case/Package: DFN-6; Supplier-1: LCSC; Supplier Part Number-1: C222094
footprint DFN-6_37.4_165_33X15_SMD (DFN Package)
pins: 1 EN, 2 GND, 3 PG, 4 VOUT, 5 NC, 6 VIN, 7 GND

## REG_5.5V-2.4~5.5V-1.25A-SOT23-5
designator U?, comment SY6280AAC
SOT-23-5 PMIC - Power Distribution Switches RoHS; Manufacturer: Silergy Corp; Alternate Part Number-1: NA; Manufacturer Part Number: SY6280AAC; Case/Package: SOT-23-5; Supplier-1: LCSC; Supplier Part Number-1: C55136
footprint SOT23-5 (CASE: SOT)
pins: 1 OUT, 2 GND, 3 ISET, 4 EN, 5 IN

## REG_5.5V-2.4~5.5V-1.25A-SOT23-5_1
designator U?, comment SY6280AAC
SOT-23-5 PMIC - Power Distribution Switches RoHS; Manufacturer: Silergy Corp; Alternate Part Number-1: NA; Manufacturer Part Number: SY6280AAC; Case/Package: SOT-23-5; Supplier-1: LCSC; Supplier Part Number-1: C55136
footprint SOT23-5 (CASE: SOT)
pins: 1 OUT, 2 GND, 3 ISET, 4 EN, 5 IN

## REG_5.5V-2.4~5.5V-1.25A-SOT23-5_2
designator U?, comment SY6280AAC
SOT-23-5 PMIC - Power Distribution Switches RoHS; Manufacturer: Silergy Corp; Alternate Part Number-1: NA; Manufacturer Part Number: SY6280AAC; Case/Package: SOT-23-5; Supplier-1: LCSC; Supplier Part Number-1: C55136
footprint SOT23-5 (CASE: SOT)
pins: 1 OUT, 2 GND, 3 ISET, 4 EN, 5 IN

## REG_5.5V-3.3V-0.3A-1W-SOT-23-5
designator U?, comment RT9193-33GB
Linear Voltage Regulator IC 1 Output 300mA SOT-23-5; Manufacturer: Richtek USA Inc.; Alternate Part Number-1: NA; Manufacturer Part Number: RT9193-33GB; Supplier-1: LCSC; Supplier Part Number-1: C15651; Case/Package: SOT-23-5
footprint SOT23-5 (CASE: SOT)
pins: 1 VIN, 2 GND, 3 EN, 4 BP, 5 VOUT

## REG_5.5V-3.3V-0.3A-1W-SOT-23-5_1
designator U?, comment RT9193-33GB
Linear Voltage Regulator IC 1 Output 300mA SOT-23-5; Manufacturer: Richtek USA Inc.; Alternate Part Number-1: NA; Manufacturer Part Number: RT9193-33GB; Supplier-1: LCSC; Supplier Part Number-1: C15651; Case/Package: SOT-23-5
footprint SOT23-5 (CASE: SOT)
pins: 1 VIN, 2 GND, 3 EN, 4 BP, 5 VOUT

## REG_5.5V-3.3V-0.3A-1W-SOT-23-5_2
designator U?, comment RT9193-33GB
Linear Voltage Regulator IC 1 Output 300mA SOT-23-5; Manufacturer: Richtek USA Inc.; Alternate Part Number-1: NA; Manufacturer Part Number: RT9193-33GB; Supplier-1: LCSC; Supplier Part Number-1: C15651; Case/Package: SOT-23-5
footprint SOT23-5 (CASE: SOT)
pins: 1 VIN, 2 GND, 3 EN, 4 BP, 5 VOUT

## REG_5.5V-3.3V-0.25A-0.8W-SOT-23-5
designator U?, comment LP5907MFX-3.3/NOPB
Linear Voltage Regulator IC 1 Output 250mA SOT-23-5; Manufacturer: Recom; Alternate Part Number-1: NA; Manufacturer Part Number: LP5907MFX-3.3/NOPB; Case/Package: SOT-23-5; Supplier-1: SP ROAD; Supplier Part Number-1: LP5907MFX-3.3/NOPB
footprint SOT23-5 (CASE: SOT)
pins: 1 IN, 2 GND, 3 EN, 4 NC, 5 O/P

## REG_5.5V-3.3V-0.25A-0.8W-SOT-23-5_1
designator U?, comment LP5907MFX-3.3/NOPB
Linear Voltage Regulator IC 1 Output 250mA SOT-23-5; Manufacturer: Recom; Alternate Part Number-1: NA; Manufacturer Part Number: LP5907MFX-3.3/NOPB; Case/Package: SOT-23-5; Supplier-1: SP ROAD; Supplier Part Number-1: LP5907MFX-3.3/NOPB
footprint SOT23-5 (CASE: SOT)
pins: 1 IN, 2 GND, 3 EN, 4 NC, 5 O/P

## REG_5.5V-3.3V-0.25A-0.8W-SOT-23-5_2
designator U?, comment LP5907MFX-3.3/NOPB
Linear Voltage Regulator IC 1 Output 250mA SOT-23-5; Manufacturer: Recom; Alternate Part Number-1: NA; Manufacturer Part Number: LP5907MFX-3.3/NOPB; Case/Package: SOT-23-5; Supplier-1: SP ROAD; Supplier Part Number-1: LP5907MFX-3.3/NOPB
footprint SOT23-5 (CASE: SOT)
pins: 1 IN, 2 GND, 3 EN, 4 NC, 5 O/P

## REG_5.5V-4.5V-0.25A-0.8W-SOT-23-5
designator U?, comment LP5907MFX-4.5/NOPB
Linear Voltage Regulator IC 1 Output 250mA SOT-23-5; Manufacturer: STMicroelectronics; Alternate Part Number-1: NA; Manufacturer Part Number: LP5907MFX-4.5/NOPB; Case/Package: SOT-23-5; Supplier-1: SP ROAD; Supplier Part Number-1: LP5907MFX-4.5/NOPB
footprint SOT23-5 (CASE: SOT)
pins: 1 IN, 2 GND, 3 EN, 4 NC, 5 O/P

## REG_5.5V-4.5V-0.25A-0.8W-SOT-23-5_1
designator U?, comment LP5907MFX-4.5/NOPB
Linear Voltage Regulator IC 1 Output 250mA SOT-23-5; Manufacturer: STMicroelectronics; Alternate Part Number-1: NA; Manufacturer Part Number: LP5907MFX-4.5/NOPB; Case/Package: SOT-23-5; Supplier-1: SP ROAD; Supplier Part Number-1: LP5907MFX-4.5/NOPB
footprint SOT23-5 (CASE: SOT)
pins: 1 IN, 2 GND, 3 EN, 4 NC, 5 O/P

## REG_5.5V-4.5V-0.25A-0.8W-SOT-23-5_2
designator U?, comment LP5907MFX-4.5/NOPB
Linear Voltage Regulator IC 1 Output 250mA SOT-23-5; Manufacturer: STMicroelectronics; Alternate Part Number-1: NA; Manufacturer Part Number: LP5907MFX-4.5/NOPB; Case/Package: SOT-23-5; Supplier-1: SP ROAD; Supplier Part Number-1: LP5907MFX-4.5/NOPB
footprint SOT23-5 (CASE: SOT)
pins: 1 IN, 2 GND, 3 EN, 4 NC, 5 O/P

## REG_6V-1.8V-0.5A-0.364W-SOT-23
designator U?, comment PT5108E23E-18
The PT5108 is a low-dropout voltage regulator designed for portable applications that require both low noise performance / and board space.; Manufacturer: POWTECH; Alternate Part Number-1: NA; Manufacturer Part Number: PT5108E23E-1; Case/Package: SOT-23; Supplier-1: NA; Supplier Part Number-1: NA
footprint SOT23-5 (CASE: SOT)
pins: 1 VIN, 2 GND, 3 VEN, 4 BYPASS, 5 VOUT

## REG_6V-1.8V-0.5A-0.364W-SOT-23_1
designator U?, comment PT5108E23E-18
The PT5108 is a low-dropout voltage regulator designed for portable applications that require both low noise performance / and board space.; Manufacturer: POWTECH; Alternate Part Number-1: NA; Manufacturer Part Number: PT5108E23E-1; Case/Package: SOT-23; Supplier-1: NA; Supplier Part Number-1: NA
footprint SOT23-5 (CASE: SOT)
pins: 1 VIN, 2 GND, 3 VEN, 4 BYPASS, 5 VOUT

## REG_6V-1.8V-0.5A-0.364W-SOT-23_2
designator U?, comment PT5108E23E-18
The PT5108 is a low-dropout voltage regulator designed for portable applications that require both low noise performance / and board space.; Manufacturer: POWTECH; Alternate Part Number-1: NA; Manufacturer Part Number: PT5108E23E-1; Case/Package: SOT-23; Supplier-1: NA; Supplier Part Number-1: NA
footprint SOT23-5 (CASE: SOT)
pins: 1 VIN, 2 GND, 3 VEN, 4 BYPASS, 5 VOUT

## REG_6V-2V-0.15-0.3W-SOT23-5
designator U?, comment AP2122AK
Linear Voltage Regulator IC Positive Fixed 1 Output 150mA SOT-23-5; Manufacturer: TI National Semiconductor; Manufacturer Part Number: AP2122AK-3.0TRG1; Alternate Part Number-1: NA; Case/Package: SOT23-5; Supplier-1: LCSC; Supplier Part Number-1: AP2122AK
footprint SOT23-5 (CASE: SOT)
pins: 1 VOUT, 2 GND, 3 VIN, 4 CE, 5 NC

## REG_6V-2V-0.15-0.3W-SOT23-5_1
designator U?, comment AP2122AK
Linear Voltage Regulator IC Positive Fixed 1 Output 150mA SOT-23-5; Manufacturer: TI National Semiconductor; Manufacturer Part Number: AP2122AK-3.0TRG1; Alternate Part Number-1: NA; Case/Package: SOT23-5; Supplier-1: LCSC; Supplier Part Number-1: AP2122AK
footprint SOT23-5 (CASE: SOT)
pins: 1 VOUT, 2 GND, 3 VIN, 4 CE, 5 NC

## REG_6V-2V-0.15-0.3W-SOT23-5_2
designator U?, comment AP2122AK
Linear Voltage Regulator IC Positive Fixed 1 Output 150mA SOT-23-5; Manufacturer: TI National Semiconductor; Manufacturer Part Number: AP2122AK-3.0TRG1; Alternate Part Number-1: NA; Case/Package: SOT23-5; Supplier-1: LCSC; Supplier Part Number-1: AP2122AK
footprint SOT23-5 (CASE: SOT)
pins: 1 VOUT, 2 GND, 3 VIN, 4 CE, 5 NC